# Altium integrated library Xilinx Spartan-3A DSP.IntLib: 32 symbols (part 6 of 10)
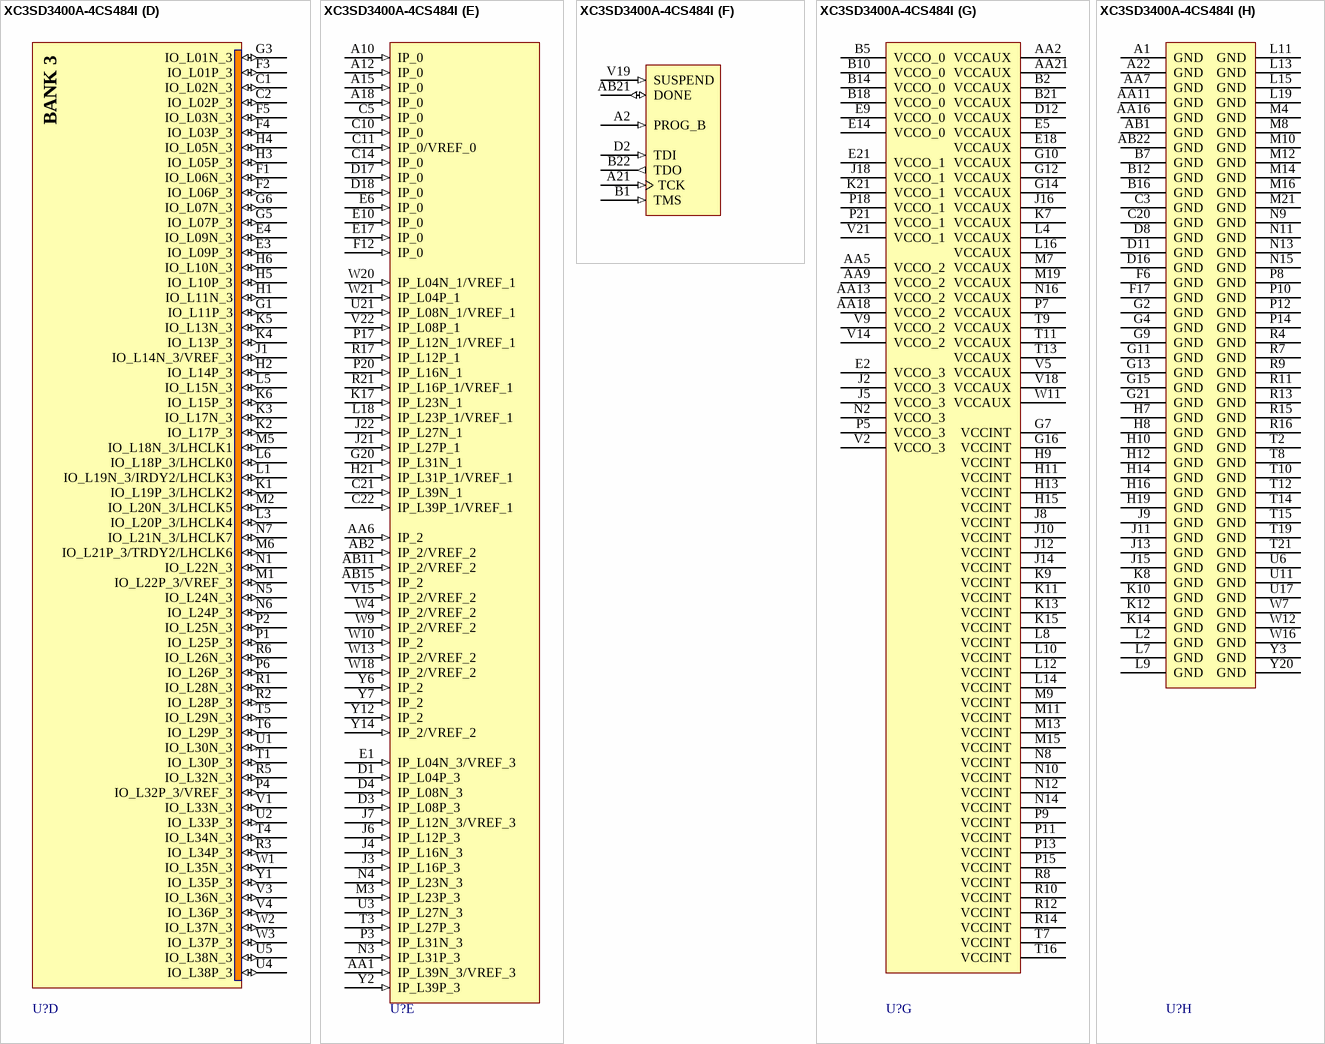
[diagram p52: symbol XC3SD3400A-4CS484I]

## XC3SD3400A-4CS484I
designator U?
Spartan-3A DSP FPGA, 309 User I/Os, 484-Pin FBGA, Standard Performance, Industrial Grade; Published: 20-Jul-2007; LatestRevisionDate: 24-Apr-2009; LatestRevisionNote: Updated to datasheet version 2.2 March 2009; DatasheetVersion: ver2.2, Mar-2009; PackageVersion: ver1.0, Apr-2007; PackageReference: CS484; Publisher: Altium Limited; PackageDescription: 484-Ball Laminate Chip Scale Ball Grid Array (CS484); Code_JEDEC: MO-205; ComponentLink1Description: Manufacturer Link; ComponentLink1URL: http://www.xilinx.com/products/spartan3a/3adsp.htm; ComponentLink2Description: Datasheet; ComponentLink2URL: http://www.xilinx.com/support/documentation/data_sheets/ds610.pdf
footprint CS484 (BGA, 484-Leads, Body 19x19mm, Pitch 0.8mm)
3D model XC3S3400A-FG484 (484-Ball Laminate Chip Scale Ball Grid Array (CS484))
signal-integrity model XC3S3400A_FG484 (Spartan-3A DSP)
part A pins: A3 IO_L30N_0 (io), A4 IO_L28N_0 (io), A5 IO_L25N_0 (io), A6 IO_L25P_0 (io), A7 IO_L24N_0/VREF_0 (io), A8 IO_L20P_0/GCLK10 (io), A9 IO_L18P_0/GCLK6 (io), A11 IO_L15N_0 (io), A13 IO_L11P_0 (io), A14 IO_L10P_0 (io), A16 IO_L06P_0/VREF_0 (io), A17 IO_L06N_0 (io), A19 IO_L07N_0 (io), A20 IO_0 (io), B3 IO_L30P_0 (io), B4 IO_L28P_0 (io), B6 IO_L24P_0 (io), B8 IO_L20N_0/GCLK11 (io), B9 IO_L18N_0/GCLK7 (io), B11 IO_L15P_0 (io), B13 IO_L11N_0 (io), B15 IO_L10N_0 (io), B17 IO_L03P_0 (io), B19 IO_L02N_0 (io), B20 IO_L07P_0 (io), C4 IO_L29N_0 (io), C6 IO_L21P_0 (io), C7 IO_L26P_0 (io), C8 IO_L22P_0 (io), C9 IO_L16P_0 (io), C12 IO_L14N_0 (io), C13 IO_L14P_0 (io), C15 IO_L12N_0/VREF_0 (io), C16 IO_L08N_0 (io), C17 IO_L03N_0 (io), C18 IO_L02P_0/VREF_0 (io), C19 IO_L01N_0 (io), D5 IO_L29P_0 (io), D6 IO_L21N_0 (io), D7 IO_L26N_0 (io), D9 IO_L22N_0 (io), D10 IO_L16N_0 (io), D13 IO_L09N_0 (io), D14 IO_L12P_0 (io), D15 IO_L08P_0 (io), D19 IO_L01P_0 (io), E7 IO_L31P_0/VREF_0 (io), E8 IO_L27N_0 (io), E11 IO_L19N_0/GCLK9 (io), E12 IO_L17P_0/GCLK4 (io), E13 IO_L09P_0 (io), E15 IO_L05P_0 (io), E16 IO_L04P_0 (io), F7 IO_L31N_0/PUDC_B (io), F8 IO_L27P_0 (io), F9 IO_L23N_0 (io), F10 IO_L19P_0/GCLK8 (io), F11 IO_L17N_0/GCLK5 (io), F13 IO_L13N_0 (io), F14 IO_L13P_0 (io), F15 IO_L05N_0 (io), F16 IO_L04N_0 (io), G8 IO_L23P_0 (io)
part B pins: AA22 IO_L02N_1/LDC0 (io), D20 IO_L36P_1/A20 (io), D21 IO_L37P_1/A22 (io), D22 IO_L37N_1/A23 (io), E19 IO_L36N_1/A21 (io), E20 IO_L35N_1 (io), E22 IO_L33N_1 (io), F18 IO_L38N_1/A25 (io), F19 IO_L38P_1/A24 (io), F20 IO_L30N_1/A19 (io), F21 IO_L35P_1 (io), F22 IO_L33P_1 (io), G17 IO_L34P_1 (io), G18 IO_L34N_1 (io), G19 IO_L30P_1/A18 (io), G22 IO_L28N_1 (io), H17 IO_L26P_1/A14 (io), H18 IO_L26N_1/A15 (io), H20 IO_L32N_1 (io), H22 IO_L28P_1 (io), J17 IO_L29N_1/A17 (io), J19 IO_L32P_1 (io), J20 IO_L25N_1/A13 (io), K16 IO_L29P_1/A16 (io), K18 IO_L24N_1 (io), K19 IO_L24P_1 (io), K20 IO_L25P_1/A12 (io), K22 IO_L22N_1/A11 (io), L17 IO_L21N_1/RHCLK7 (io), L20 IO_L20N_1/RHCLK5 (io), L21 IO_L20P_1/RHCLK4 (io), L22 IO_L22P_1/A10 (io), M17 IO_L18N_1/RHCLK1 (io), M18 IO_L21P_1/IRDY1/RHCLK6 (io), M20 IO_L19N_1/TRDY1/RHCLK3 (io), M22 IO_L17N_1/A9 (io), N17 IO_L13P_1/A2 (io), N18 IO_L18P_1/RHCLK0 (io), N19 IO_L15N_1/A7 (io), N20 IO_L15P_1/A6 (io), N21 IO_L19P_1/RHCLK2 (io), N22 IO_L17P_1/A8 (io), P16 IO_L13N_1/A3 (io), P19 IO_L10P_1 (io), P22 IO_L14N_1/A5 (io), R18 IO_L10N_1 (io), R19 IO_L07P_1 (io), R20 IO_L07N_1 (io), R22 IO_L14P_1/A4 (io), T17 IO_L05N_1 (io), T18 IO_L05P_1 (io), T20 IO_L09N_1 (io), T22 IO_L11N_1/VREF_1 (io), U18 IO_L01P_1/HDC (io), U19 IO_L01N_1/LDC2 (io), U20 IO_L09P_1 (io), U22 IO_L11P_1 (io), V20 IO_L03N_1/A1 (io), W19 IO_L03P_1/A0 (io), W22 IO_L06P_1 (io), Y21 IO_L02P_1/LDC1 (io), Y22 IO_L06N_1 (io)
part C pins: AA3 IO_L01P_2/M1 (io), AA4 IO_L04N_2 (io), AA8 IO_L08N_2 (io), AA10 IO_L12N_2/D6 (io), AA12 IO_L16P_2/GCLK14 (io), AA14 IO_L18N_2/GCLK3 (io), AA15 IO_L19P_2 (io), AA17 IO_L22P_2/AWAKE (io), AA19 IO_L27N_2 (io), AA20 IO_L30P_2 (io), AB3 IO_L01N_2/M0 (io), AB4 IO_L04P_2 (io), AB5 IO_L05P_2 (io), AB6 IO_L05N_2 (io), AB7 IO_L08P_2 (io), AB8 IO_L09P_2/VS1 (io), AB9 IO_L09N_2/VS0 (io), AB10 IO_L12P_2/D7 (io), AB12 IO_L16N_2/GCLK15 (io), AB13 IO_L18P_2/GCLK2 (io), AB14 IO_L19N_2 (io), AB16 IO_L22N_2/DOUT (io), AB17 IO_L23P_2 (io), AB18 IO_L23N_2 (io), AB19 IO_L27P_2 (io), AB20 IO_L30N_2 (io), U7 IO_L02N_2/CSO_B (io), U8 IO_L11N_2 (io), U9 IO_L10N_2 (io), U10 IO_L14N_2/D4 (io), U12 IO_L17P_2/GCLK0 (io), U13 IO_L20P_2 (io), U14 IO_L25P_2 (io), U15 IO_L25N_2 (io), U16 IO_L28P_2 (io), V6 IO_L02P_2/M2 (io), V7 IO_L11P_2 (io), V8 IO_L06N_2 (io), V10 IO_L10P_2 (io), V11 IO_L14P_2/D5 (io), V12 IO_L17N_2/GCLK1 (io), V13 IO_L20N_2/MOSI/CSI_B (io), V16 IO_L28N_2 (io), V17 IO_L31N_2/CCLK (io), W5 IO_L03P_2 (io), W6 IO_L07N_2/VS2 (io), W8 IO_L06P_2 (io), W14 IO_L21N_2 (io), W15 IO_L24P_2/INIT_B (io), W17 IO_L31P_2/D0/DIN/MISO (io), Y4 IO_L03N_2 (io), Y5 IO_L07P_2/RDWR_B (io), Y8 IO_L13P_2 (io), Y9 IO_L13N_2 (io), Y10 IO_L15N_2/GCLK13 (io), Y11 IO_L15P_2/GCLK12 (io), Y13 IO_L21P_2 (io), Y15 IO_L24N_2/D3 (io), Y16 IO_L29N_2 (io), Y17 IO_L29P_2 (io), Y18 IO_L26P_2/D2 (io), Y19 IO_L26N_2/D1 (io)
part D pins: C1 IO_L02N_3 (io), C2 IO_L02P_3 (io), E3 IO_L09P_3 (io), E4 IO_L09N_3 (io), F1 IO_L06N_3 (io), F2 IO_L06P_3 (io), F3 IO_L01P_3 (io), F4 IO_L03P_3 (io), F5 IO_L03N_3 (io), G1 IO_L11P_3 (io), G3 IO_L01N_3 (io), G5 IO_L07P_3 (io), G6 IO_L07N_3 (io), H1 IO_L11N_3 (io), H2 IO_L14P_3 (io), H3 IO_L05P_3 (io), H4 IO_L05N_3 (io), H5 IO_L10P_3 (io), H6 IO_L10N_3 (io), J1 IO_L14N_3/VREF_3 (io), K1 IO_L19P_3/LHCLK2 (io), K2 IO_L17P_3 (io), K3 IO_L17N_3 (io), K4 IO_L13P_3 (io), K5 IO_L13N_3 (io), K6 IO_L15P_3 (io), L1 IO_L19N_3/IRDY2/LHCLK3 (io), L3 IO_L20P_3/LHCLK4 (io), L5 IO_L15N_3 (io), L6 IO_L18P_3/LHCLK0 (io), M1 IO_L22P_3/VREF_3 (io), M2 IO_L20N_3/LHCLK5 (io), M5 IO_L18N_3/LHCLK1 (io), M6 IO_L21P_3/TRDY2/LHCLK6 (io), N1 IO_L22N_3 (io), N5 IO_L24N_3 (io), N6 IO_L24P_3 (io), N7 IO_L21N_3/LHCLK7 (io), P1 IO_L25P_3 (io), P2 IO_L25N_3 (io), P4 IO_L32P_3/VREF_3 (io), P6 IO_L26P_3 (io), R1 IO_L28N_3 (io), R2 IO_L28P_3 (io), R3 IO_L34P_3 (io), R5 IO_L32N_3 (io), R6 IO_L26N_3 (io), T1 IO_L30P_3 (io), T4 IO_L34N_3 (io), T5 IO_L29N_3 (io), T6 IO_L29P_3 (io), U1 IO_L30N_3 (io), U2 IO_L33P_3 (io), U4 IO_L38P_3 (io), U5 IO_L38N_3 (io), V1 IO_L33N_3 (io), V3 IO_L36N_3 (io), V4 IO_L36P_3 (io), W1 IO_L35N_3 (io), W2 IO_L37N_3 (io), W3 IO_L37P_3 (io), Y1 IO_L35P_3 (io)
part E pins: A10 IP_0 (in), A12 IP_0 (in), A15 IP_0 (in), A18 IP_0 (in), AA1 IP_L39N_3/VREF_3 (in), AA6 IP_2 (in), AB2 IP_2/VREF_2 (in), AB11 IP_2/VREF_2 (in), AB15 IP_2 (in), C5 IP_0 (in), C10 IP_0 (in), C11 IP_0/VREF_0 (in), C14 IP_0 (in), C21 IP_L39N_1 (in), C22 IP_L39P_1/VREF_1 (in), D1 IP_L04P_3 (in), D3 IP_L08P_3 (in), D4 IP_L08N_3 (in), D17 IP_0 (in), D18 IP_0 (in), E1 IP_L04N_3/VREF_3 (in), E6 IP_0 (in), E10 IP_0 (in), E17 IP_0 (in), F12 IP_0 (in), G20 IP_L31N_1 (in), H21 IP_L31P_1/VREF_1 (in), J3 IP_L16P_3 (in), J4 IP_L16N_3 (in), J6 IP_L12P_3 (in), J7 IP_L12N_3/VREF_3 (in), J21 IP_L27P_1 (in), J22 IP_L27N_1 (in), K17 IP_L23N_1 (in), L18 IP_L23P_1/VREF_1 (in), M3 IP_L23P_3 (in), N3 IP_L31P_3 (in), N4 IP_L23N_3 (in), P3 IP_L31N_3 (in), P17 IP_L12N_1/VREF_1 (in), P20 IP_L16N_1 (in), R17 IP_L12P_1 (in), R21 IP_L16P_1/VREF_1 (in), T3 IP_L27P_3 (in), U3 IP_L27N_3 (in), U21 IP_L08N_1/VREF_1 (in), V15 IP_2/VREF_2 (in), V22 IP_L08P_1 (in), W4 IP_2/VREF_2 (in), W9 IP_2/VREF_2 (in), W10 IP_2 (in), W13 IP_2/VREF_2 (in), W18 IP_2/VREF_2 (in), W20 IP_L04N_1/VREF_1 (in), W21 IP_L04P_1 (in), Y2 IP_L39P_3 (in), Y6 IP_2 (in), Y7 IP_2 (in), Y12 IP_2 (in), Y14 IP_2/VREF_2 (in)
part F pins: A2 PROG_B (in), A21 TCK (in), AB21 DONE (io), B1 TMS (in), B22 TDO (out), D2 TDI (in), V19 SUSPEND (in)
part G pins: AA2 VCCAUX (power), AA5 VCCO_2 (power), AA9 VCCO_2 (power), AA13 VCCO_2 (power), AA18 VCCO_2 (power), AA21 VCCAUX (power), B2 VCCAUX (power), B5 VCCO_0 (power), B10 VCCO_0 (power), B14 VCCO_0 (power), B18 VCCO_0 (power), B21 VCCAUX (power), D12 VCCAUX (power), E2 VCCO_3 (power), E5 VCCAUX (power), E9 VCCO_0 (power), E14 VCCO_0 (power), E18 VCCAUX (power), E21 VCCO_1 (power), G7 VCCINT (power), G10 VCCAUX (power), G12 VCCAUX (power), G14 VCCAUX (power), G16 VCCINT (power), H9 VCCINT (power), H11 VCCINT (power), H13 VCCINT (power), H15 VCCINT (power), J2 VCCO_3 (power), J5 VCCO_3 (power), J8 VCCINT (power), J10 VCCINT (power), J12 VCCINT (power), J14 VCCINT (power), J16 VCCAUX (power), J18 VCCO_1 (power), K7 VCCAUX (power), K9 VCCINT (power), K11 VCCINT (power), K13 VCCINT (power), K15 VCCINT (power), K21 VCCO_1 (power), L4 VCCAUX (power), L8 VCCINT (power), L10 VCCINT (power), L12 VCCINT (power), L14 VCCINT (power), L16 VCCAUX (power), M7 VCCAUX (power), M9 VCCINT (power), M11 VCCINT (power), M13 VCCINT (power), M15 VCCINT (power), M19 VCCAUX (power), N2 VCCO_3 (power), N8 VCCINT (power), N10 VCCINT (power), N12 VCCINT (power), N14 VCCINT (power), N16 VCCAUX (power), P5 VCCO_3 (power), P7 VCCAUX (power), P9 VCCINT (power), P11 VCCINT (power), P13 VCCINT (power), P15 VCCINT (power), P18 VCCO_1 (power), P21 VCCO_1 (power), R8 VCCINT (power), R10 VCCINT (power), R12 VCCINT (power), R14 VCCINT (power), T7 VCCINT (power), T9 VCCAUX (power), T11 VCCAUX (power), T13 VCCAUX (power), T16 VCCINT (power), V2 VCCO_3 (power), V5 VCCAUX (power), V9 VCCO_2 (power), V14 VCCO_2 (power), V18 VCCAUX (power), V21 VCCO_1 (power), W11 VCCAUX (power)
part H pins: A1 GND (power), A22 GND (power), AA7 GND (power), AA11 GND (power), AA16 GND (power), AB1 GND (power), AB22 GND (power), B7 GND (power), B12 GND (power), B16 GND (power), C3 GND (power), C20 GND (power), D8 GND (power), D11 GND (power), D16 GND (power), F6 GND (power), F17 GND (power), G2 GND (power), G4 GND (power), G9 GND (power), G11 GND (power), G13 GND (power), G15 GND (power), G21 GND (power), H7 GND (power), H8 GND (power), H10 GND (power), H12 GND (power), H14 GND (power), H16 GND (power), H19 GND (power), J9 GND (power), J11 GND (power), J13 GND (power), J15 GND (power), K8 GND (power), K10 GND (power), K12 GND (power), K14 GND (power), L2 GND (power), L7 GND (power), L9 GND (power), L11 GND (power), L13 GND (power), L15 GND (power), L19 GND (power), M4 GND (power), M8 GND (power), M10 GND (power), M12 GND (power), M14 GND (power), M16 GND (power), M21 GND (power), N9 GND (power), N11 GND (power), N13 GND (power), N15 GND (power), P8 GND (power), P10 GND (power), P12 GND (power), P14 GND (power), R4 GND (power), R7 GND (power), R9 GND (power), R11 GND (power), R13 GND (power), R15 GND (power), R16 GND (power), T2 GND (power), T8 GND (power), T10 GND (power), T12 GND (power), T14 GND (power), T15 GND (power), T19 GND (power), T21 GND (power), U6 GND (power), U11 GND (power), U17 GND (power), W7 GND (power), W12 GND (power), W16 GND (power), Y3 GND (power), Y20 GND (power)
part A text: BANK 0
part B text: BANK 1
part C text: BANK 2
part D text: BANK 3

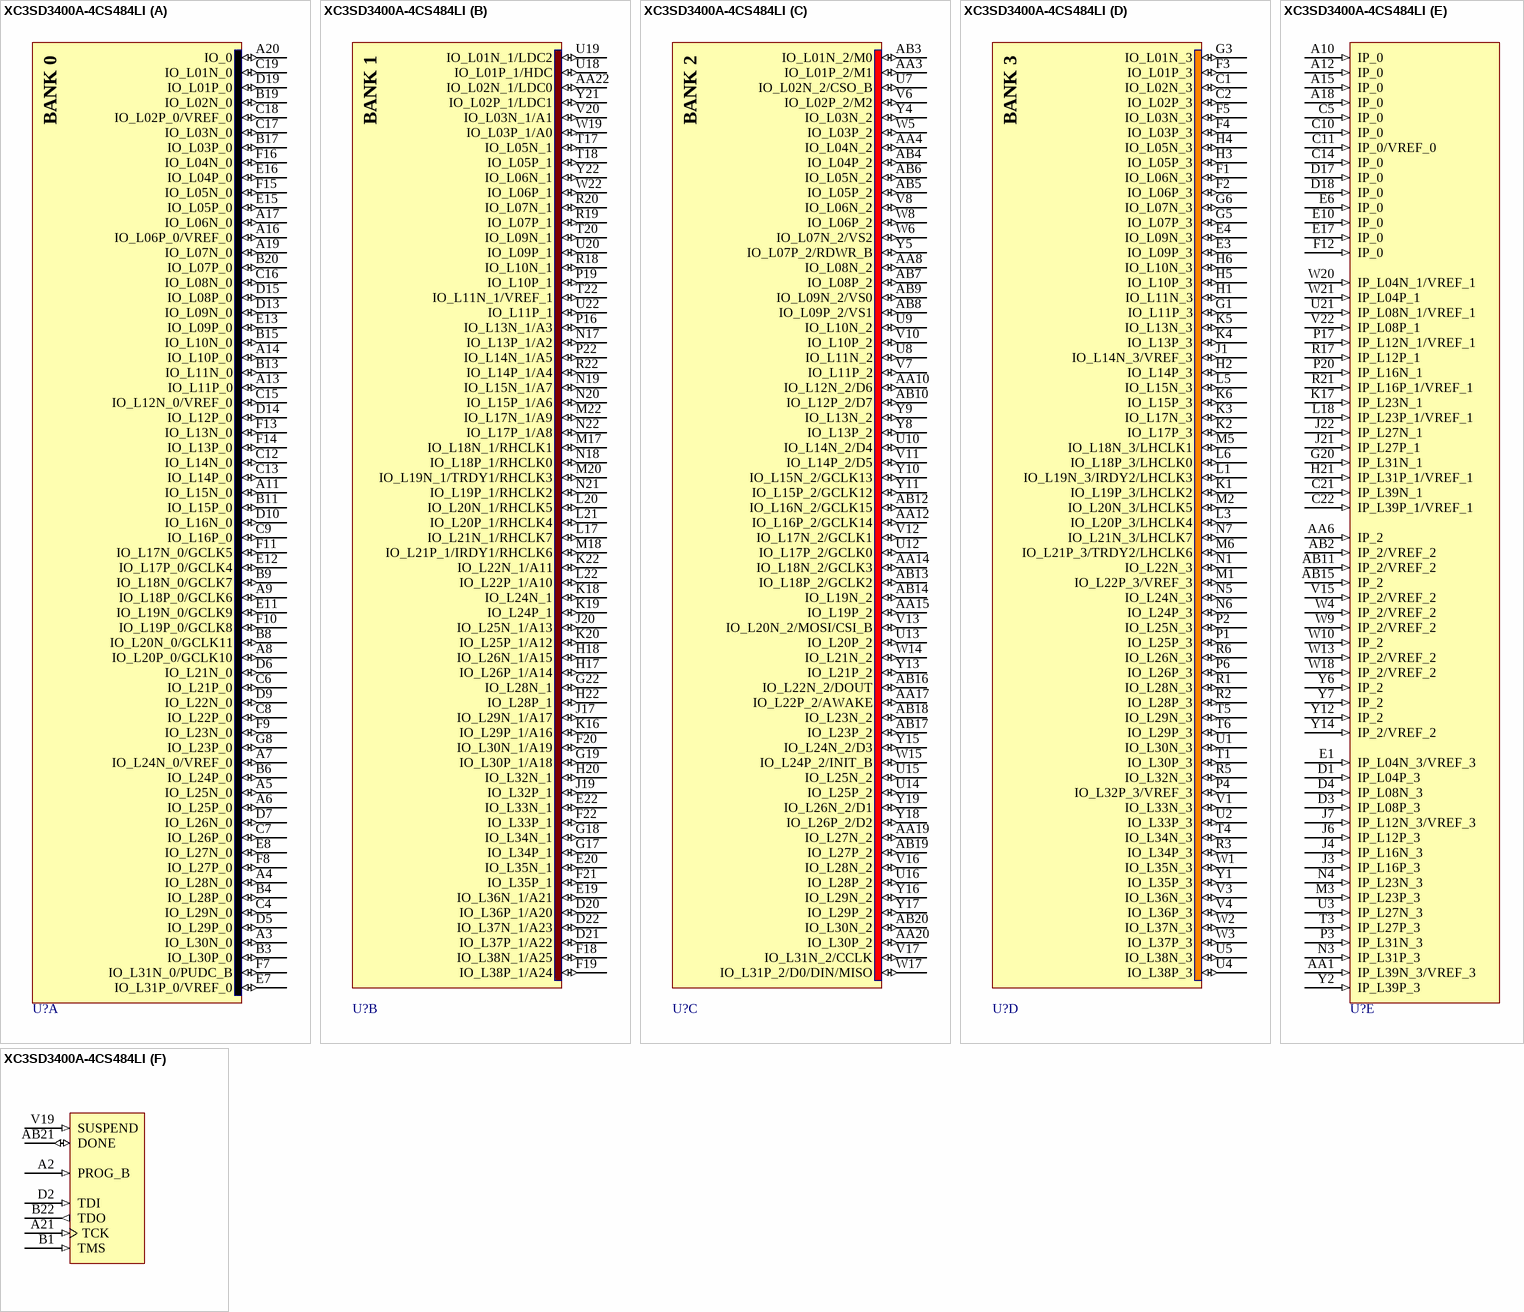
[diagram p27: symbol XC3SD3400A-4CS484LI]

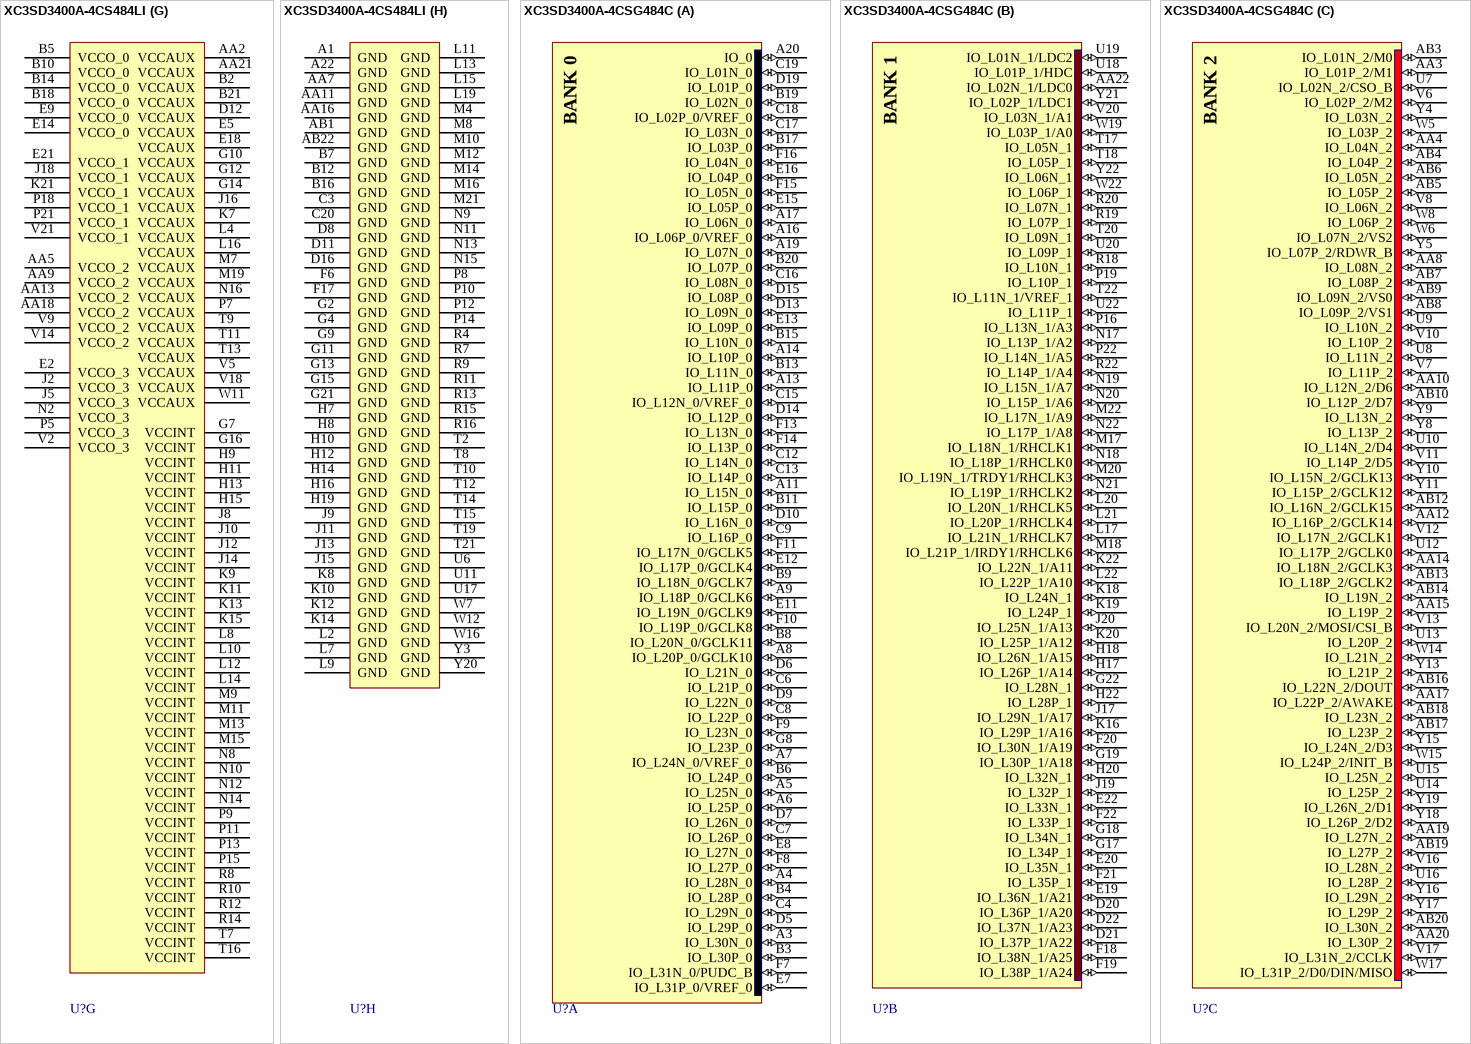
[diagram p28: symbols XC3SD3400A-4CS484LI to XC3SD3400A-4CSG484C]

## XC3SD3400A-4CS484LI
designator U?
Spartan-3A DSP FPGA, 309 User I/Os, 484-Pin FBGA, Standard Performance, Low-power Industrial Grade; Published: 24-Apr-2009; DatasheetVersion: ver2.2, Mar-2009; PackageVersion: ver1.0, Apr-2007; PackageReference: CS484; Publisher: Altium Limited; PackageDescription: 484-Ball Laminate Chip Scale Ball Grid Array (CS484); Code_JEDEC: MO-205; ComponentLink1Description: Manufacturer Link; ComponentLink1URL: http://www.xilinx.com/products/spartan3a/3adsp.htm; ComponentLink2Description: Datasheet; ComponentLink2URL: http://www.xilinx.com/support/documentation/data_sheets/ds610.pdf
footprint CS484 (BGA, 484-Leads, Body 19x19mm, Pitch 0.8mm)
3D model XC3S3400A-FG484 (484-Ball Laminate Chip Scale Ball Grid Array (CS484))
signal-integrity model XC3S3400A_FG484 (Spartan-3A DSP)
part A pins: A3 IO_L30N_0 (io), A4 IO_L28N_0 (io), A5 IO_L25N_0 (io), A6 IO_L25P_0 (io), A7 IO_L24N_0/VREF_0 (io), A8 IO_L20P_0/GCLK10 (io), A9 IO_L18P_0/GCLK6 (io), A11 IO_L15N_0 (io), A13 IO_L11P_0 (io), A14 IO_L10P_0 (io), A16 IO_L06P_0/VREF_0 (io), A17 IO_L06N_0 (io), A19 IO_L07N_0 (io), A20 IO_0 (io), B3 IO_L30P_0 (io), B4 IO_L28P_0 (io), B6 IO_L24P_0 (io), B8 IO_L20N_0/GCLK11 (io), B9 IO_L18N_0/GCLK7 (io), B11 IO_L15P_0 (io), B13 IO_L11N_0 (io), B15 IO_L10N_0 (io), B17 IO_L03P_0 (io), B19 IO_L02N_0 (io), B20 IO_L07P_0 (io), C4 IO_L29N_0 (io), C6 IO_L21P_0 (io), C7 IO_L26P_0 (io), C8 IO_L22P_0 (io), C9 IO_L16P_0 (io), C12 IO_L14N_0 (io), C13 IO_L14P_0 (io), C15 IO_L12N_0/VREF_0 (io), C16 IO_L08N_0 (io), C17 IO_L03N_0 (io), C18 IO_L02P_0/VREF_0 (io), C19 IO_L01N_0 (io), D5 IO_L29P_0 (io), D6 IO_L21N_0 (io), D7 IO_L26N_0 (io), D9 IO_L22N_0 (io), D10 IO_L16N_0 (io), D13 IO_L09N_0 (io), D14 IO_L12P_0 (io), D15 IO_L08P_0 (io), D19 IO_L01P_0 (io), E7 IO_L31P_0/VREF_0 (io), E8 IO_L27N_0 (io), E11 IO_L19N_0/GCLK9 (io), E12 IO_L17P_0/GCLK4 (io), E13 IO_L09P_0 (io), E15 IO_L05P_0 (io), E16 IO_L04P_0 (io), F7 IO_L31N_0/PUDC_B (io), F8 IO_L27P_0 (io), F9 IO_L23N_0 (io), F10 IO_L19P_0/GCLK8 (io), F11 IO_L17N_0/GCLK5 (io), F13 IO_L13N_0 (io), F14 IO_L13P_0 (io), F15 IO_L05N_0 (io), F16 IO_L04N_0 (io), G8 IO_L23P_0 (io)
part B pins: AA22 IO_L02N_1/LDC0 (io), D20 IO_L36P_1/A20 (io), D21 IO_L37P_1/A22 (io), D22 IO_L37N_1/A23 (io), E19 IO_L36N_1/A21 (io), E20 IO_L35N_1 (io), E22 IO_L33N_1 (io), F18 IO_L38N_1/A25 (io), F19 IO_L38P_1/A24 (io), F20 IO_L30N_1/A19 (io), F21 IO_L35P_1 (io), F22 IO_L33P_1 (io), G17 IO_L34P_1 (io), G18 IO_L34N_1 (io), G19 IO_L30P_1/A18 (io), G22 IO_L28N_1 (io), H17 IO_L26P_1/A14 (io), H18 IO_L26N_1/A15 (io), H20 IO_L32N_1 (io), H22 IO_L28P_1 (io), J17 IO_L29N_1/A17 (io), J19 IO_L32P_1 (io), J20 IO_L25N_1/A13 (io), K16 IO_L29P_1/A16 (io), K18 IO_L24N_1 (io), K19 IO_L24P_1 (io), K20 IO_L25P_1/A12 (io), K22 IO_L22N_1/A11 (io), L17 IO_L21N_1/RHCLK7 (io), L20 IO_L20N_1/RHCLK5 (io), L21 IO_L20P_1/RHCLK4 (io), L22 IO_L22P_1/A10 (io), M17 IO_L18N_1/RHCLK1 (io), M18 IO_L21P_1/IRDY1/RHCLK6 (io), M20 IO_L19N_1/TRDY1/RHCLK3 (io), M22 IO_L17N_1/A9 (io), N17 IO_L13P_1/A2 (io), N18 IO_L18P_1/RHCLK0 (io), N19 IO_L15N_1/A7 (io), N20 IO_L15P_1/A6 (io), N21 IO_L19P_1/RHCLK2 (io), N22 IO_L17P_1/A8 (io), P16 IO_L13N_1/A3 (io), P19 IO_L10P_1 (io), P22 IO_L14N_1/A5 (io), R18 IO_L10N_1 (io), R19 IO_L07P_1 (io), R20 IO_L07N_1 (io), R22 IO_L14P_1/A4 (io), T17 IO_L05N_1 (io), T18 IO_L05P_1 (io), T20 IO_L09N_1 (io), T22 IO_L11N_1/VREF_1 (io), U18 IO_L01P_1/HDC (io), U19 IO_L01N_1/LDC2 (io), U20 IO_L09P_1 (io), U22 IO_L11P_1 (io), V20 IO_L03N_1/A1 (io), W19 IO_L03P_1/A0 (io), W22 IO_L06P_1 (io), Y21 IO_L02P_1/LDC1 (io), Y22 IO_L06N_1 (io)
part C pins: AA3 IO_L01P_2/M1 (io), AA4 IO_L04N_2 (io), AA8 IO_L08N_2 (io), AA10 IO_L12N_2/D6 (io), AA12 IO_L16P_2/GCLK14 (io), AA14 IO_L18N_2/GCLK3 (io), AA15 IO_L19P_2 (io), AA17 IO_L22P_2/AWAKE (io), AA19 IO_L27N_2 (io), AA20 IO_L30P_2 (io), AB3 IO_L01N_2/M0 (io), AB4 IO_L04P_2 (io), AB5 IO_L05P_2 (io), AB6 IO_L05N_2 (io), AB7 IO_L08P_2 (io), AB8 IO_L09P_2/VS1 (io), AB9 IO_L09N_2/VS0 (io), AB10 IO_L12P_2/D7 (io), AB12 IO_L16N_2/GCLK15 (io), AB13 IO_L18P_2/GCLK2 (io), AB14 IO_L19N_2 (io), AB16 IO_L22N_2/DOUT (io), AB17 IO_L23P_2 (io), AB18 IO_L23N_2 (io), AB19 IO_L27P_2 (io), AB20 IO_L30N_2 (io), U7 IO_L02N_2/CSO_B (io), U8 IO_L11N_2 (io), U9 IO_L10N_2 (io), U10 IO_L14N_2/D4 (io), U12 IO_L17P_2/GCLK0 (io), U13 IO_L20P_2 (io), U14 IO_L25P_2 (io), U15 IO_L25N_2 (io), U16 IO_L28P_2 (io), V6 IO_L02P_2/M2 (io), V7 IO_L11P_2 (io), V8 IO_L06N_2 (io), V10 IO_L10P_2 (io), V11 IO_L14P_2/D5 (io), V12 IO_L17N_2/GCLK1 (io), V13 IO_L20N_2/MOSI/CSI_B (io), V16 IO_L28N_2 (io), V17 IO_L31N_2/CCLK (io), W5 IO_L03P_2 (io), W6 IO_L07N_2/VS2 (io), W8 IO_L06P_2 (io), W14 IO_L21N_2 (io), W15 IO_L24P_2/INIT_B (io), W17 IO_L31P_2/D0/DIN/MISO (io), Y4 IO_L03N_2 (io), Y5 IO_L07P_2/RDWR_B (io), Y8 IO_L13P_2 (io), Y9 IO_L13N_2 (io), Y10 IO_L15N_2/GCLK13 (io), Y11 IO_L15P_2/GCLK12 (io), Y13 IO_L21P_2 (io), Y15 IO_L24N_2/D3 (io), Y16 IO_L29N_2 (io), Y17 IO_L29P_2 (io), Y18 IO_L26P_2/D2 (io), Y19 IO_L26N_2/D1 (io)
part D pins: C1 IO_L02N_3 (io), C2 IO_L02P_3 (io), E3 IO_L09P_3 (io), E4 IO_L09N_3 (io), F1 IO_L06N_3 (io), F2 IO_L06P_3 (io), F3 IO_L01P_3 (io), F4 IO_L03P_3 (io), F5 IO_L03N_3 (io), G1 IO_L11P_3 (io), G3 IO_L01N_3 (io), G5 IO_L07P_3 (io), G6 IO_L07N_3 (io), H1 IO_L11N_3 (io), H2 IO_L14P_3 (io), H3 IO_L05P_3 (io), H4 IO_L05N_3 (io), H5 IO_L10P_3 (io), H6 IO_L10N_3 (io), J1 IO_L14N_3/VREF_3 (io), K1 IO_L19P_3/LHCLK2 (io), K2 IO_L17P_3 (io), K3 IO_L17N_3 (io), K4 IO_L13P_3 (io), K5 IO_L13N_3 (io), K6 IO_L15P_3 (io), L1 IO_L19N_3/IRDY2/LHCLK3 (io), L3 IO_L20P_3/LHCLK4 (io), L5 IO_L15N_3 (io), L6 IO_L18P_3/LHCLK0 (io), M1 IO_L22P_3/VREF_3 (io), M2 IO_L20N_3/LHCLK5 (io), M5 IO_L18N_3/LHCLK1 (io), M6 IO_L21P_3/TRDY2/LHCLK6 (io), N1 IO_L22N_3 (io), N5 IO_L24N_3 (io), N6 IO_L24P_3 (io), N7 IO_L21N_3/LHCLK7 (io), P1 IO_L25P_3 (io), P2 IO_L25N_3 (io), P4 IO_L32P_3/VREF_3 (io), P6 IO_L26P_3 (io), R1 IO_L28N_3 (io), R2 IO_L28P_3 (io), R3 IO_L34P_3 (io), R5 IO_L32N_3 (io), R6 IO_L26N_3 (io), T1 IO_L30P_3 (io), T4 IO_L34N_3 (io), T5 IO_L29N_3 (io), T6 IO_L29P_3 (io), U1 IO_L30N_3 (io), U2 IO_L33P_3 (io), U4 IO_L38P_3 (io), U5 IO_L38N_3 (io), V1 IO_L33N_3 (io), V3 IO_L36N_3 (io), V4 IO_L36P_3 (io), W1 IO_L35N_3 (io), W2 IO_L37N_3 (io), W3 IO_L37P_3 (io), Y1 IO_L35P_3 (io)
part E pins: A10 IP_0 (in), A12 IP_0 (in), A15 IP_0 (in), A18 IP_0 (in), AA1 IP_L39N_3/VREF_3 (in), AA6 IP_2 (in), AB2 IP_2/VREF_2 (in), AB11 IP_2/VREF_2 (in), AB15 IP_2 (in), C5 IP_0 (in), C10 IP_0 (in), C11 IP_0/VREF_0 (in), C14 IP_0 (in), C21 IP_L39N_1 (in), C22 IP_L39P_1/VREF_1 (in), D1 IP_L04P_3 (in), D3 IP_L08P_3 (in), D4 IP_L08N_3 (in), D17 IP_0 (in), D18 IP_0 (in), E1 IP_L04N_3/VREF_3 (in), E6 IP_0 (in), E10 IP_0 (in), E17 IP_0 (in), F12 IP_0 (in), G20 IP_L31N_1 (in), H21 IP_L31P_1/VREF_1 (in), J3 IP_L16P_3 (in), J4 IP_L16N_3 (in), J6 IP_L12P_3 (in), J7 IP_L12N_3/VREF_3 (in), J21 IP_L27P_1 (in), J22 IP_L27N_1 (in), K17 IP_L23N_1 (in), L18 IP_L23P_1/VREF_1 (in), M3 IP_L23P_3 (in), N3 IP_L31P_3 (in), N4 IP_L23N_3 (in), P3 IP_L31N_3 (in), P17 IP_L12N_1/VREF_1 (in), P20 IP_L16N_1 (in), R17 IP_L12P_1 (in), R21 IP_L16P_1/VREF_1 (in), T3 IP_L27P_3 (in), U3 IP_L27N_3 (in), U21 IP_L08N_1/VREF_1 (in), V15 IP_2/VREF_2 (in), V22 IP_L08P_1 (in), W4 IP_2/VREF_2 (in), W9 IP_2/VREF_2 (in), W10 IP_2 (in), W13 IP_2/VREF_2 (in), W18 IP_2/VREF_2 (in), W20 IP_L04N_1/VREF_1 (in), W21 IP_L04P_1 (in), Y2 IP_L39P_3 (in), Y6 IP_2 (in), Y7 IP_2 (in), Y12 IP_2 (in), Y14 IP_2/VREF_2 (in)
part F pins: A2 PROG_B (in), A21 TCK (in), AB21 DONE (io), B1 TMS (in), B22 TDO (out), D2 TDI (in), V19 SUSPEND (in)
part G pins: AA2 VCCAUX (power), AA5 VCCO_2 (power), AA9 VCCO_2 (power), AA13 VCCO_2 (power), AA18 VCCO_2 (power), AA21 VCCAUX (power), B2 VCCAUX (power), B5 VCCO_0 (power), B10 VCCO_0 (power), B14 VCCO_0 (power), B18 VCCO_0 (power), B21 VCCAUX (power), D12 VCCAUX (power), E2 VCCO_3 (power), E5 VCCAUX (power), E9 VCCO_0 (power), E14 VCCO_0 (power), E18 VCCAUX (power), E21 VCCO_1 (power), G7 VCCINT (power), G10 VCCAUX (power), G12 VCCAUX (power), G14 VCCAUX (power), G16 VCCINT (power), H9 VCCINT (power), H11 VCCINT (power), H13 VCCINT (power), H15 VCCINT (power), J2 VCCO_3 (power), J5 VCCO_3 (power), J8 VCCINT (power), J10 VCCINT (power), J12 VCCINT (power), J14 VCCINT (power), J16 VCCAUX (power), J18 VCCO_1 (power), K7 VCCAUX (power), K9 VCCINT (power), K11 VCCINT (power), K13 VCCINT (power), K15 VCCINT (power), K21 VCCO_1 (power), L4 VCCAUX (power), L8 VCCINT (power), L10 VCCINT (power), L12 VCCINT (power), L14 VCCINT (power), L16 VCCAUX (power), M7 VCCAUX (power), M9 VCCINT (power), M11 VCCINT (power), M13 VCCINT (power), M15 VCCINT (power), M19 VCCAUX (power), N2 VCCO_3 (power), N8 VCCINT (power), N10 VCCINT (power), N12 VCCINT (power), N14 VCCINT (power), N16 VCCAUX (power), P5 VCCO_3 (power), P7 VCCAUX (power), P9 VCCINT (power), P11 VCCINT (power), P13 VCCINT (power), P15 VCCINT (power), P18 VCCO_1 (power), P21 VCCO_1 (power), R8 VCCINT (power), R10 VCCINT (power), R12 VCCINT (power), R14 VCCINT (power), T7 VCCINT (power), T9 VCCAUX (power), T11 VCCAUX (power), T13 VCCAUX (power), T16 VCCINT (power), V2 VCCO_3 (power), V5 VCCAUX (power), V9 VCCO_2 (power), V14 VCCO_2 (power), V18 VCCAUX (power), V21 VCCO_1 (power), W11 VCCAUX (power)
part H pins: A1 GND (power), A22 GND (power), AA7 GND (power), AA11 GND (power), AA16 GND (power), AB1 GND (power), AB22 GND (power), B7 GND (power), B12 GND (power), B16 GND (power), C3 GND (power), C20 GND (power), D8 GND (power), D11 GND (power), D16 GND (power), F6 GND (power), F17 GND (power), G2 GND (power), G4 GND (power), G9 GND (power), G11 GND (power), G13 GND (power), G15 GND (power), G21 GND (power), H7 GND (power), H8 GND (power), H10 GND (power), H12 GND (power), H14 GND (power), H16 GND (power), H19 GND (power), J9 GND (power), J11 GND (power), J13 GND (power), J15 GND (power), K8 GND (power), K10 GND (power), K12 GND (power), K14 GND (power), L2 GND (power), L7 GND (power), L9 GND (power), L11 GND (power), L13 GND (power), L15 GND (power), L19 GND (power), M4 GND (power), M8 GND (power), M10 GND (power), M12 GND (power), M14 GND (power), M16 GND (power), M21 GND (power), N9 GND (power), N11 GND (power), N13 GND (power), N15 GND (power), P8 GND (power), P10 GND (power), P12 GND (power), P14 GND (power), R4 GND (power), R7 GND (power), R9 GND (power), R11 GND (power), R13 GND (power), R15 GND (power), R16 GND (power), T2 GND (power), T8 GND (power), T10 GND (power), T12 GND (power), T14 GND (power), T15 GND (power), T19 GND (power), T21 GND (power), U6 GND (power), U11 GND (power), U17 GND (power), W7 GND (power), W12 GND (power), W16 GND (power), Y3 GND (power), Y20 GND (power)
part A text: BANK 0
part B text: BANK 1
part C text: BANK 2
part D text: BANK 3

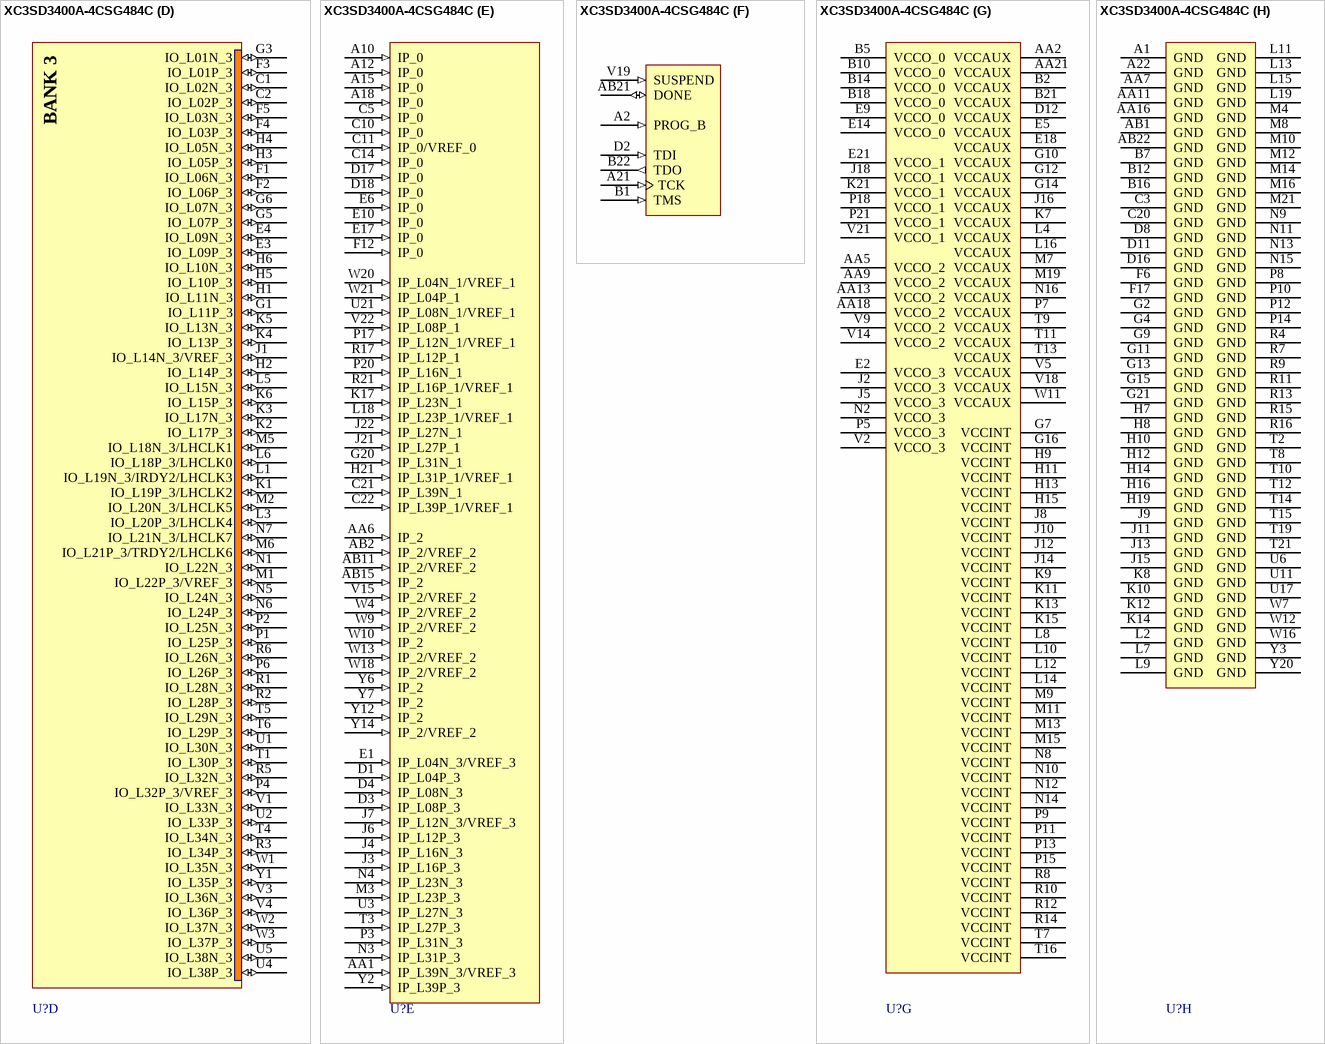
[diagram p29: symbol XC3SD3400A-4CSG484C]

## XC3SD3400A-4CSG484C
designator U?
Spartan-3A DSP FPGA, 309 User I/Os, 484-Pin FBGA, Standard Performance, Commercial Grade, Pb-Free; Published: 20-Jul-2007; LatestRevisionDate: 24-Apr-2009; LatestRevisionNote: Updated to datasheet version 2.2 March 2009; DatasheetVersion: ver2.2, Mar-2009; PackageVersion: ver1.0, Apr-2007; PackageReference: CSG484; Publisher: Altium Limited; PackageDescription: 484-Ball Laminate Chip Scale Ball Grid Array (CS484) - Pb-Free; Code_JEDEC: MO-205; ComponentLink1Description: Manufacturer Link; ComponentLink1URL: http://www.xilinx.com/products/spartan3a/3adsp.htm; ComponentLink2Description: Datasheet; ComponentLink2URL: http://www.xilinx.com/support/documentation/data_sheets/ds610.pdf
footprint CSG484 (BGA, 484-Leads, Body 19x19mm, Pitch 0.8mm)
3D model XC3S3400A-FG484 (484-Ball Laminate Chip Scale Ball Grid Array (CS484) - Pb-Free)
signal-integrity model XC3S3400A_FGG484 (Spartan-3A DSP)
part A pins: A3 IO_L30N_0 (io), A4 IO_L28N_0 (io), A5 IO_L25N_0 (io), A6 IO_L25P_0 (io), A7 IO_L24N_0/VREF_0 (io), A8 IO_L20P_0/GCLK10 (io), A9 IO_L18P_0/GCLK6 (io), A11 IO_L15N_0 (io), A13 IO_L11P_0 (io), A14 IO_L10P_0 (io), A16 IO_L06P_0/VREF_0 (io), A17 IO_L06N_0 (io), A19 IO_L07N_0 (io), A20 IO_0 (io), B3 IO_L30P_0 (io), B4 IO_L28P_0 (io), B6 IO_L24P_0 (io), B8 IO_L20N_0/GCLK11 (io), B9 IO_L18N_0/GCLK7 (io), B11 IO_L15P_0 (io), B13 IO_L11N_0 (io), B15 IO_L10N_0 (io), B17 IO_L03P_0 (io), B19 IO_L02N_0 (io), B20 IO_L07P_0 (io), C4 IO_L29N_0 (io), C6 IO_L21P_0 (io), C7 IO_L26P_0 (io), C8 IO_L22P_0 (io), C9 IO_L16P_0 (io), C12 IO_L14N_0 (io), C13 IO_L14P_0 (io), C15 IO_L12N_0/VREF_0 (io), C16 IO_L08N_0 (io), C17 IO_L03N_0 (io), C18 IO_L02P_0/VREF_0 (io), C19 IO_L01N_0 (io), D5 IO_L29P_0 (io), D6 IO_L21N_0 (io), D7 IO_L26N_0 (io), D9 IO_L22N_0 (io), D10 IO_L16N_0 (io), D13 IO_L09N_0 (io), D14 IO_L12P_0 (io), D15 IO_L08P_0 (io), D19 IO_L01P_0 (io), E7 IO_L31P_0/VREF_0 (io), E8 IO_L27N_0 (io), E11 IO_L19N_0/GCLK9 (io), E12 IO_L17P_0/GCLK4 (io), E13 IO_L09P_0 (io), E15 IO_L05P_0 (io), E16 IO_L04P_0 (io), F7 IO_L31N_0/PUDC_B (io), F8 IO_L27P_0 (io), F9 IO_L23N_0 (io), F10 IO_L19P_0/GCLK8 (io), F11 IO_L17N_0/GCLK5 (io), F13 IO_L13N_0 (io), F14 IO_L13P_0 (io), F15 IO_L05N_0 (io), F16 IO_L04N_0 (io), G8 IO_L23P_0 (io)
part B pins: AA22 IO_L02N_1/LDC0 (io), D20 IO_L36P_1/A20 (io), D21 IO_L37P_1/A22 (io), D22 IO_L37N_1/A23 (io), E19 IO_L36N_1/A21 (io), E20 IO_L35N_1 (io), E22 IO_L33N_1 (io), F18 IO_L38N_1/A25 (io), F19 IO_L38P_1/A24 (io), F20 IO_L30N_1/A19 (io), F21 IO_L35P_1 (io), F22 IO_L33P_1 (io), G17 IO_L34P_1 (io), G18 IO_L34N_1 (io), G19 IO_L30P_1/A18 (io), G22 IO_L28N_1 (io), H17 IO_L26P_1/A14 (io), H18 IO_L26N_1/A15 (io), H20 IO_L32N_1 (io), H22 IO_L28P_1 (io), J17 IO_L29N_1/A17 (io), J19 IO_L32P_1 (io), J20 IO_L25N_1/A13 (io), K16 IO_L29P_1/A16 (io), K18 IO_L24N_1 (io), K19 IO_L24P_1 (io), K20 IO_L25P_1/A12 (io), K22 IO_L22N_1/A11 (io), L17 IO_L21N_1/RHCLK7 (io), L20 IO_L20N_1/RHCLK5 (io), L21 IO_L20P_1/RHCLK4 (io), L22 IO_L22P_1/A10 (io), M17 IO_L18N_1/RHCLK1 (io), M18 IO_L21P_1/IRDY1/RHCLK6 (io), M20 IO_L19N_1/TRDY1/RHCLK3 (io), M22 IO_L17N_1/A9 (io), N17 IO_L13P_1/A2 (io), N18 IO_L18P_1/RHCLK0 (io), N19 IO_L15N_1/A7 (io), N20 IO_L15P_1/A6 (io), N21 IO_L19P_1/RHCLK2 (io), N22 IO_L17P_1/A8 (io), P16 IO_L13N_1/A3 (io), P19 IO_L10P_1 (io), P22 IO_L14N_1/A5 (io), R18 IO_L10N_1 (io), R19 IO_L07P_1 (io), R20 IO_L07N_1 (io), R22 IO_L14P_1/A4 (io), T17 IO_L05N_1 (io), T18 IO_L05P_1 (io), T20 IO_L09N_1 (io), T22 IO_L11N_1/VREF_1 (io), U18 IO_L01P_1/HDC (io), U19 IO_L01N_1/LDC2 (io), U20 IO_L09P_1 (io), U22 IO_L11P_1 (io), V20 IO_L03N_1/A1 (io), W19 IO_L03P_1/A0 (io), W22 IO_L06P_1 (io), Y21 IO_L02P_1/LDC1 (io), Y22 IO_L06N_1 (io)
part C pins: AA3 IO_L01P_2/M1 (io), AA4 IO_L04N_2 (io), AA8 IO_L08N_2 (io), AA10 IO_L12N_2/D6 (io), AA12 IO_L16P_2/GCLK14 (io), AA14 IO_L18N_2/GCLK3 (io), AA15 IO_L19P_2 (io), AA17 IO_L22P_2/AWAKE (io), AA19 IO_L27N_2 (io), AA20 IO_L30P_2 (io), AB3 IO_L01N_2/M0 (io), AB4 IO_L04P_2 (io), AB5 IO_L05P_2 (io), AB6 IO_L05N_2 (io), AB7 IO_L08P_2 (io), AB8 IO_L09P_2/VS1 (io), AB9 IO_L09N_2/VS0 (io), AB10 IO_L12P_2/D7 (io), AB12 IO_L16N_2/GCLK15 (io), AB13 IO_L18P_2/GCLK2 (io), AB14 IO_L19N_2 (io), AB16 IO_L22N_2/DOUT (io), AB17 IO_L23P_2 (io), AB18 IO_L23N_2 (io), AB19 IO_L27P_2 (io), AB20 IO_L30N_2 (io), U7 IO_L02N_2/CSO_B (io), U8 IO_L11N_2 (io), U9 IO_L10N_2 (io), U10 IO_L14N_2/D4 (io), U12 IO_L17P_2/GCLK0 (io), U13 IO_L20P_2 (io), U14 IO_L25P_2 (io), U15 IO_L25N_2 (io), U16 IO_L28P_2 (io), V6 IO_L02P_2/M2 (io), V7 IO_L11P_2 (io), V8 IO_L06N_2 (io), V10 IO_L10P_2 (io), V11 IO_L14P_2/D5 (io), V12 IO_L17N_2/GCLK1 (io), V13 IO_L20N_2/MOSI/CSI_B (io), V16 IO_L28N_2 (io), V17 IO_L31N_2/CCLK (io), W5 IO_L03P_2 (io), W6 IO_L07N_2/VS2 (io), W8 IO_L06P_2 (io), W14 IO_L21N_2 (io), W15 IO_L24P_2/INIT_B (io), W17 IO_L31P_2/D0/DIN/MISO (io), Y4 IO_L03N_2 (io), Y5 IO_L07P_2/RDWR_B (io), Y8 IO_L13P_2 (io), Y9 IO_L13N_2 (io), Y10 IO_L15N_2/GCLK13 (io), Y11 IO_L15P_2/GCLK12 (io), Y13 IO_L21P_2 (io), Y15 IO_L24N_2/D3 (io), Y16 IO_L29N_2 (io), Y17 IO_L29P_2 (io), Y18 IO_L26P_2/D2 (io), Y19 IO_L26N_2/D1 (io)
part D pins: C1 IO_L02N_3 (io), C2 IO_L02P_3 (io), E3 IO_L09P_3 (io), E4 IO_L09N_3 (io), F1 IO_L06N_3 (io), F2 IO_L06P_3 (io), F3 IO_L01P_3 (io), F4 IO_L03P_3 (io), F5 IO_L03N_3 (io), G1 IO_L11P_3 (io), G3 IO_L01N_3 (io), G5 IO_L07P_3 (io), G6 IO_L07N_3 (io), H1 IO_L11N_3 (io), H2 IO_L14P_3 (io), H3 IO_L05P_3 (io), H4 IO_L05N_3 (io), H5 IO_L10P_3 (io), H6 IO_L10N_3 (io), J1 IO_L14N_3/VREF_3 (io), K1 IO_L19P_3/LHCLK2 (io), K2 IO_L17P_3 (io), K3 IO_L17N_3 (io), K4 IO_L13P_3 (io), K5 IO_L13N_3 (io), K6 IO_L15P_3 (io), L1 IO_L19N_3/IRDY2/LHCLK3 (io), L3 IO_L20P_3/LHCLK4 (io), L5 IO_L15N_3 (io), L6 IO_L18P_3/LHCLK0 (io), M1 IO_L22P_3/VREF_3 (io), M2 IO_L20N_3/LHCLK5 (io), M5 IO_L18N_3/LHCLK1 (io), M6 IO_L21P_3/TRDY2/LHCLK6 (io), N1 IO_L22N_3 (io), N5 IO_L24N_3 (io), N6 IO_L24P_3 (io), N7 IO_L21N_3/LHCLK7 (io), P1 IO_L25P_3 (io), P2 IO_L25N_3 (io), P4 IO_L32P_3/VREF_3 (io), P6 IO_L26P_3 (io), R1 IO_L28N_3 (io), R2 IO_L28P_3 (io), R3 IO_L34P_3 (io), R5 IO_L32N_3 (io), R6 IO_L26N_3 (io), T1 IO_L30P_3 (io), T4 IO_L34N_3 (io), T5 IO_L29N_3 (io), T6 IO_L29P_3 (io), U1 IO_L30N_3 (io), U2 IO_L33P_3 (io), U4 IO_L38P_3 (io), U5 IO_L38N_3 (io), V1 IO_L33N_3 (io), V3 IO_L36N_3 (io), V4 IO_L36P_3 (io), W1 IO_L35N_3 (io), W2 IO_L37N_3 (io), W3 IO_L37P_3 (io), Y1 IO_L35P_3 (io)
part E pins: A10 IP_0 (in), A12 IP_0 (in), A15 IP_0 (in), A18 IP_0 (in), AA1 IP_L39N_3/VREF_3 (in), AA6 IP_2 (in), AB2 IP_2/VREF_2 (in), AB11 IP_2/VREF_2 (in), AB15 IP_2 (in), C5 IP_0 (in), C10 IP_0 (in), C11 IP_0/VREF_0 (in), C14 IP_0 (in), C21 IP_L39N_1 (in), C22 IP_L39P_1/VREF_1 (in), D1 IP_L04P_3 (in), D3 IP_L08P_3 (in), D4 IP_L08N_3 (in), D17 IP_0 (in), D18 IP_0 (in), E1 IP_L04N_3/VREF_3 (in), E6 IP_0 (in), E10 IP_0 (in), E17 IP_0 (in), F12 IP_0 (in), G20 IP_L31N_1 (in), H21 IP_L31P_1/VREF_1 (in), J3 IP_L16P_3 (in), J4 IP_L16N_3 (in), J6 IP_L12P_3 (in), J7 IP_L12N_3/VREF_3 (in), J21 IP_L27P_1 (in), J22 IP_L27N_1 (in), K17 IP_L23N_1 (in), L18 IP_L23P_1/VREF_1 (in), M3 IP_L23P_3 (in), N3 IP_L31P_3 (in), N4 IP_L23N_3 (in), P3 IP_L31N_3 (in), P17 IP_L12N_1/VREF_1 (in), P20 IP_L16N_1 (in), R17 IP_L12P_1 (in), R21 IP_L16P_1/VREF_1 (in), T3 IP_L27P_3 (in), U3 IP_L27N_3 (in), U21 IP_L08N_1/VREF_1 (in), V15 IP_2/VREF_2 (in), V22 IP_L08P_1 (in), W4 IP_2/VREF_2 (in), W9 IP_2/VREF_2 (in), W10 IP_2 (in), W13 IP_2/VREF_2 (in), W18 IP_2/VREF_2 (in), W20 IP_L04N_1/VREF_1 (in), W21 IP_L04P_1 (in), Y2 IP_L39P_3 (in), Y6 IP_2 (in), Y7 IP_2 (in), Y12 IP_2 (in), Y14 IP_2/VREF_2 (in)
part F pins: A2 PROG_B (in), A21 TCK (in), AB21 DONE (io), B1 TMS (in), B22 TDO (out), D2 TDI (in), V19 SUSPEND (in)
part G pins: AA2 VCCAUX (power), AA5 VCCO_2 (power), AA9 VCCO_2 (power), AA13 VCCO_2 (power), AA18 VCCO_2 (power), AA21 VCCAUX (power), B2 VCCAUX (power), B5 VCCO_0 (power), B10 VCCO_0 (power), B14 VCCO_0 (power), B18 VCCO_0 (power), B21 VCCAUX (power), D12 VCCAUX (power), E2 VCCO_3 (power), E5 VCCAUX (power), E9 VCCO_0 (power), E14 VCCO_0 (power), E18 VCCAUX (power), E21 VCCO_1 (power), G7 VCCINT (power), G10 VCCAUX (power), G12 VCCAUX (power), G14 VCCAUX (power), G16 VCCINT (power), H9 VCCINT (power), H11 VCCINT (power), H13 VCCINT (power), H15 VCCINT (power), J2 VCCO_3 (power), J5 VCCO_3 (power), J8 VCCINT (power), J10 VCCINT (power), J12 VCCINT (power), J14 VCCINT (power), J16 VCCAUX (power), J18 VCCO_1 (power), K7 VCCAUX (power), K9 VCCINT (power), K11 VCCINT (power), K13 VCCINT (power), K15 VCCINT (power), K21 VCCO_1 (power), L4 VCCAUX (power), L8 VCCINT (power), L10 VCCINT (power), L12 VCCINT (power), L14 VCCINT (power), L16 VCCAUX (power), M7 VCCAUX (power), M9 VCCINT (power), M11 VCCINT (power), M13 VCCINT (power), M15 VCCINT (power), M19 VCCAUX (power), N2 VCCO_3 (power), N8 VCCINT (power), N10 VCCINT (power), N12 VCCINT (power), N14 VCCINT (power), N16 VCCAUX (power), P5 VCCO_3 (power), P7 VCCAUX (power), P9 VCCINT (power), P11 VCCINT (power), P13 VCCINT (power), P15 VCCINT (power), P18 VCCO_1 (power), P21 VCCO_1 (power), R8 VCCINT (power), R10 VCCINT (power), R12 VCCINT (power), R14 VCCINT (power), T7 VCCINT (power), T9 VCCAUX (power), T11 VCCAUX (power), T13 VCCAUX (power), T16 VCCINT (power), V2 VCCO_3 (power), V5 VCCAUX (power), V9 VCCO_2 (power), V14 VCCO_2 (power), V18 VCCAUX (power), V21 VCCO_1 (power), W11 VCCAUX (power)
part H pins: A1 GND (power), A22 GND (power), AA7 GND (power), AA11 GND (power), AA16 GND (power), AB1 GND (power), AB22 GND (power), B7 GND (power), B12 GND (power), B16 GND (power), C3 GND (power), C20 GND (power), D8 GND (power), D11 GND (power), D16 GND (power), F6 GND (power), F17 GND (power), G2 GND (power), G4 GND (power), G9 GND (power), G11 GND (power), G13 GND (power), G15 GND (power), G21 GND (power), H7 GND (power), H8 GND (power), H10 GND (power), H12 GND (power), H14 GND (power), H16 GND (power), H19 GND (power), J9 GND (power), J11 GND (power), J13 GND (power), J15 GND (power), K8 GND (power), K10 GND (power), K12 GND (power), K14 GND (power), L2 GND (power), L7 GND (power), L9 GND (power), L11 GND (power), L13 GND (power), L15 GND (power), L19 GND (power), M4 GND (power), M8 GND (power), M10 GND (power), M12 GND (power), M14 GND (power), M16 GND (power), M21 GND (power), N9 GND (power), N11 GND (power), N13 GND (power), N15 GND (power), P8 GND (power), P10 GND (power), P12 GND (power), P14 GND (power), R4 GND (power), R7 GND (power), R9 GND (power), R11 GND (power), R13 GND (power), R15 GND (power), R16 GND (power), T2 GND (power), T8 GND (power), T10 GND (power), T12 GND (power), T14 GND (power), T15 GND (power), T19 GND (power), T21 GND (power), U6 GND (power), U11 GND (power), U17 GND (power), W7 GND (power), W12 GND (power), W16 GND (power), Y3 GND (power), Y20 GND (power)
part A text: BANK 0
part B text: BANK 1
part C text: BANK 2
part D text: BANK 3

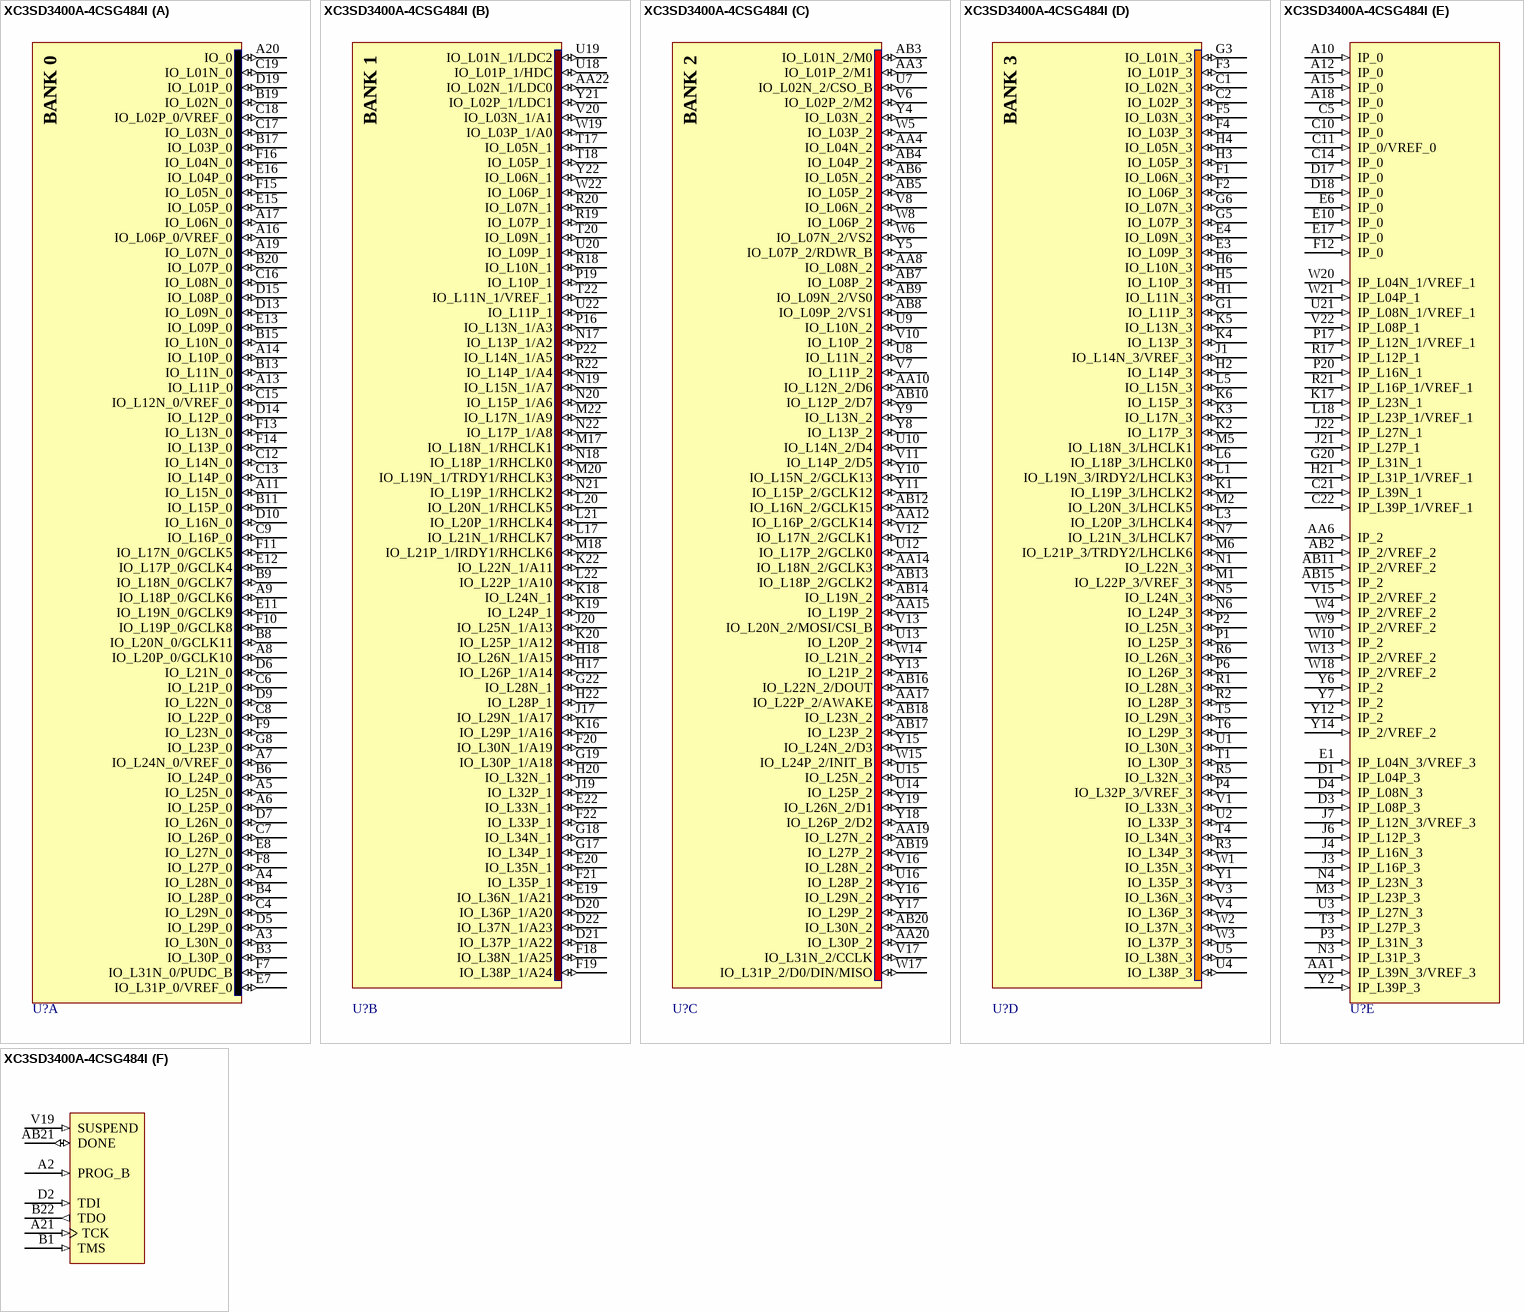
[diagram p30: symbol XC3SD3400A-4CSG484I]

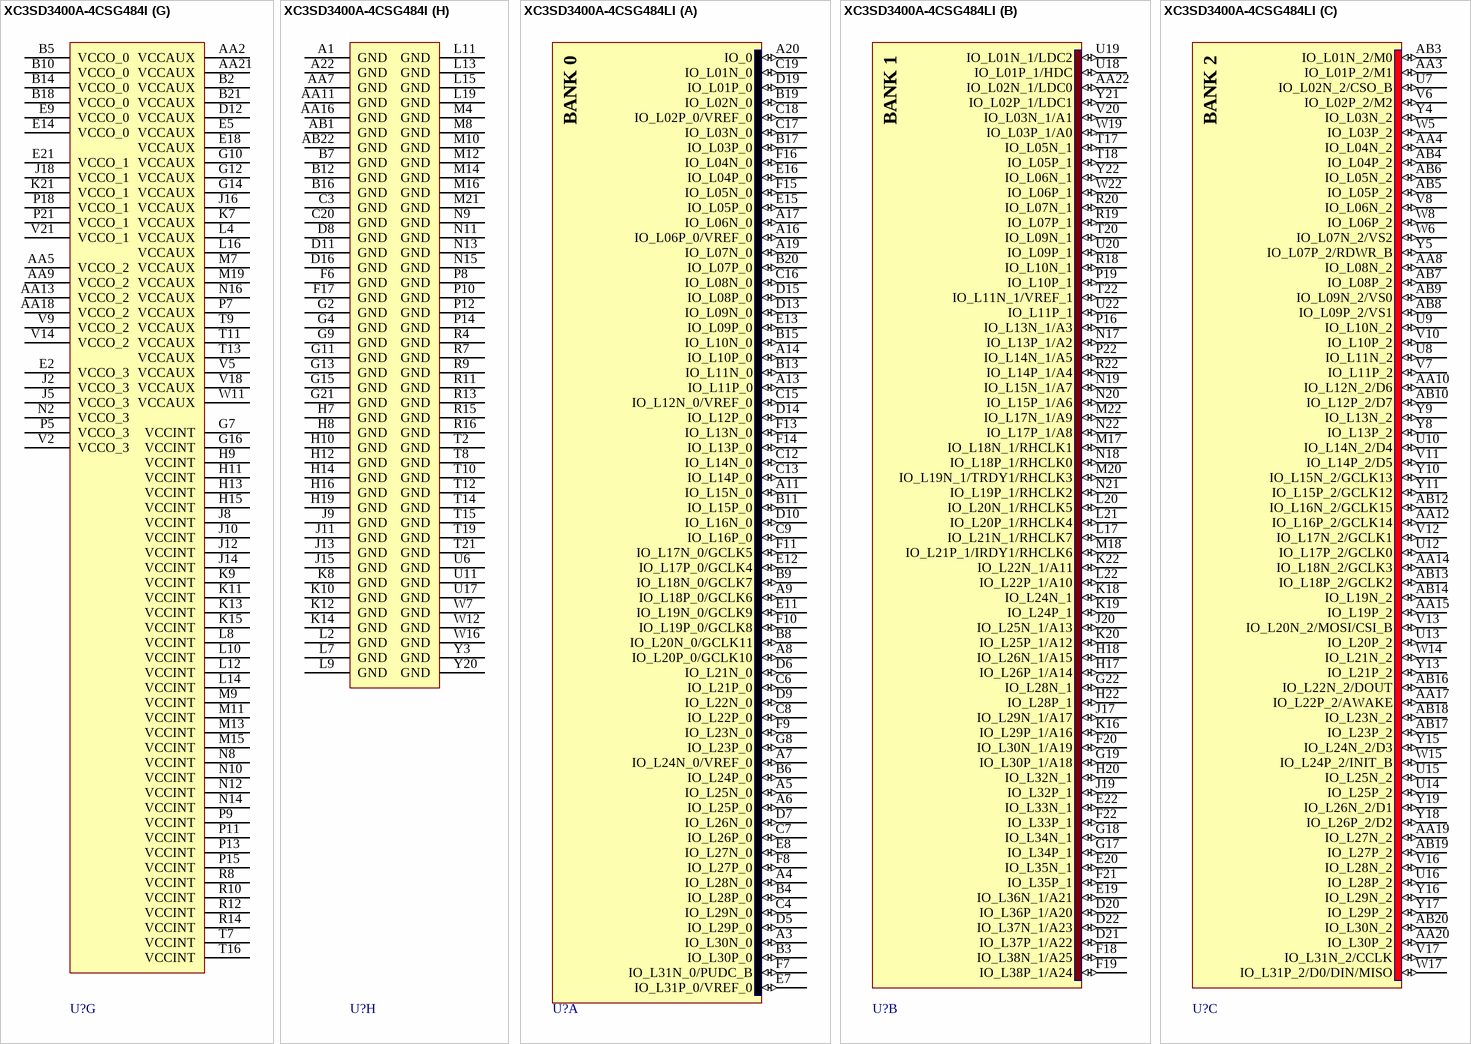
[diagram p31: symbols XC3SD3400A-4CSG484I to XC3SD3400A-4CSG484LI]

## XC3SD3400A-4CSG484I
designator U?
Spartan-3A DSP FPGA, 309 User I/Os, 484-Pin FBGA, Standard Performance, Industrial Grade, Pb-Free; Published: 20-Jul-2007; LatestRevisionDate: 24-Apr-2009; LatestRevisionNote: Updated to datasheet version 2.2 March 2009; DatasheetVersion: ver2.2, Mar-2009; PackageVersion: ver1.0, Apr-2007; PackageReference: CSG484; Publisher: Altium Limited; PackageDescription: 484-Ball Laminate Chip Scale Ball Grid Array (CS484) - Pb-Free; Code_JEDEC: MO-205; ComponentLink1Description: Manufacturer Link; ComponentLink1URL: http://www.xilinx.com/products/spartan3a/3adsp.htm; ComponentLink2Description: Datasheet; ComponentLink2URL: http://www.xilinx.com/support/documentation/data_sheets/ds610.pdf
footprint CSG484 (BGA, 484-Leads, Body 19x19mm, Pitch 0.8mm)
3D model XC3S3400A-FG484 (484-Ball Laminate Chip Scale Ball Grid Array (CS484) - Pb-Free)
signal-integrity model XC3S3400A_FGG484 (Spartan-3A DSP)
part A pins: A3 IO_L30N_0 (io), A4 IO_L28N_0 (io), A5 IO_L25N_0 (io), A6 IO_L25P_0 (io), A7 IO_L24N_0/VREF_0 (io), A8 IO_L20P_0/GCLK10 (io), A9 IO_L18P_0/GCLK6 (io), A11 IO_L15N_0 (io), A13 IO_L11P_0 (io), A14 IO_L10P_0 (io), A16 IO_L06P_0/VREF_0 (io), A17 IO_L06N_0 (io), A19 IO_L07N_0 (io), A20 IO_0 (io), B3 IO_L30P_0 (io), B4 IO_L28P_0 (io), B6 IO_L24P_0 (io), B8 IO_L20N_0/GCLK11 (io), B9 IO_L18N_0/GCLK7 (io), B11 IO_L15P_0 (io), B13 IO_L11N_0 (io), B15 IO_L10N_0 (io), B17 IO_L03P_0 (io), B19 IO_L02N_0 (io), B20 IO_L07P_0 (io), C4 IO_L29N_0 (io), C6 IO_L21P_0 (io), C7 IO_L26P_0 (io), C8 IO_L22P_0 (io), C9 IO_L16P_0 (io), C12 IO_L14N_0 (io), C13 IO_L14P_0 (io), C15 IO_L12N_0/VREF_0 (io), C16 IO_L08N_0 (io), C17 IO_L03N_0 (io), C18 IO_L02P_0/VREF_0 (io), C19 IO_L01N_0 (io), D5 IO_L29P_0 (io), D6 IO_L21N_0 (io), D7 IO_L26N_0 (io), D9 IO_L22N_0 (io), D10 IO_L16N_0 (io), D13 IO_L09N_0 (io), D14 IO_L12P_0 (io), D15 IO_L08P_0 (io), D19 IO_L01P_0 (io), E7 IO_L31P_0/VREF_0 (io), E8 IO_L27N_0 (io), E11 IO_L19N_0/GCLK9 (io), E12 IO_L17P_0/GCLK4 (io), E13 IO_L09P_0 (io), E15 IO_L05P_0 (io), E16 IO_L04P_0 (io), F7 IO_L31N_0/PUDC_B (io), F8 IO_L27P_0 (io), F9 IO_L23N_0 (io), F10 IO_L19P_0/GCLK8 (io), F11 IO_L17N_0/GCLK5 (io), F13 IO_L13N_0 (io), F14 IO_L13P_0 (io), F15 IO_L05N_0 (io), F16 IO_L04N_0 (io), G8 IO_L23P_0 (io)
part B pins: AA22 IO_L02N_1/LDC0 (io), D20 IO_L36P_1/A20 (io), D21 IO_L37P_1/A22 (io), D22 IO_L37N_1/A23 (io), E19 IO_L36N_1/A21 (io), E20 IO_L35N_1 (io), E22 IO_L33N_1 (io), F18 IO_L38N_1/A25 (io), F19 IO_L38P_1/A24 (io), F20 IO_L30N_1/A19 (io), F21 IO_L35P_1 (io), F22 IO_L33P_1 (io), G17 IO_L34P_1 (io), G18 IO_L34N_1 (io), G19 IO_L30P_1/A18 (io), G22 IO_L28N_1 (io), H17 IO_L26P_1/A14 (io), H18 IO_L26N_1/A15 (io), H20 IO_L32N_1 (io), H22 IO_L28P_1 (io), J17 IO_L29N_1/A17 (io), J19 IO_L32P_1 (io), J20 IO_L25N_1/A13 (io), K16 IO_L29P_1/A16 (io), K18 IO_L24N_1 (io), K19 IO_L24P_1 (io), K20 IO_L25P_1/A12 (io), K22 IO_L22N_1/A11 (io), L17 IO_L21N_1/RHCLK7 (io), L20 IO_L20N_1/RHCLK5 (io), L21 IO_L20P_1/RHCLK4 (io), L22 IO_L22P_1/A10 (io), M17 IO_L18N_1/RHCLK1 (io), M18 IO_L21P_1/IRDY1/RHCLK6 (io), M20 IO_L19N_1/TRDY1/RHCLK3 (io), M22 IO_L17N_1/A9 (io), N17 IO_L13P_1/A2 (io), N18 IO_L18P_1/RHCLK0 (io), N19 IO_L15N_1/A7 (io), N20 IO_L15P_1/A6 (io), N21 IO_L19P_1/RHCLK2 (io), N22 IO_L17P_1/A8 (io), P16 IO_L13N_1/A3 (io), P19 IO_L10P_1 (io), P22 IO_L14N_1/A5 (io), R18 IO_L10N_1 (io), R19 IO_L07P_1 (io), R20 IO_L07N_1 (io), R22 IO_L14P_1/A4 (io), T17 IO_L05N_1 (io), T18 IO_L05P_1 (io), T20 IO_L09N_1 (io), T22 IO_L11N_1/VREF_1 (io), U18 IO_L01P_1/HDC (io), U19 IO_L01N_1/LDC2 (io), U20 IO_L09P_1 (io), U22 IO_L11P_1 (io), V20 IO_L03N_1/A1 (io), W19 IO_L03P_1/A0 (io), W22 IO_L06P_1 (io), Y21 IO_L02P_1/LDC1 (io), Y22 IO_L06N_1 (io)
part C pins: AA3 IO_L01P_2/M1 (io), AA4 IO_L04N_2 (io), AA8 IO_L08N_2 (io), AA10 IO_L12N_2/D6 (io), AA12 IO_L16P_2/GCLK14 (io), AA14 IO_L18N_2/GCLK3 (io), AA15 IO_L19P_2 (io), AA17 IO_L22P_2/AWAKE (io), AA19 IO_L27N_2 (io), AA20 IO_L30P_2 (io), AB3 IO_L01N_2/M0 (io), AB4 IO_L04P_2 (io), AB5 IO_L05P_2 (io), AB6 IO_L05N_2 (io), AB7 IO_L08P_2 (io), AB8 IO_L09P_2/VS1 (io), AB9 IO_L09N_2/VS0 (io), AB10 IO_L12P_2/D7 (io), AB12 IO_L16N_2/GCLK15 (io), AB13 IO_L18P_2/GCLK2 (io), AB14 IO_L19N_2 (io), AB16 IO_L22N_2/DOUT (io), AB17 IO_L23P_2 (io), AB18 IO_L23N_2 (io), AB19 IO_L27P_2 (io), AB20 IO_L30N_2 (io), U7 IO_L02N_2/CSO_B (io), U8 IO_L11N_2 (io), U9 IO_L10N_2 (io), U10 IO_L14N_2/D4 (io), U12 IO_L17P_2/GCLK0 (io), U13 IO_L20P_2 (io), U14 IO_L25P_2 (io), U15 IO_L25N_2 (io), U16 IO_L28P_2 (io), V6 IO_L02P_2/M2 (io), V7 IO_L11P_2 (io), V8 IO_L06N_2 (io), V10 IO_L10P_2 (io), V11 IO_L14P_2/D5 (io), V12 IO_L17N_2/GCLK1 (io), V13 IO_L20N_2/MOSI/CSI_B (io), V16 IO_L28N_2 (io), V17 IO_L31N_2/CCLK (io), W5 IO_L03P_2 (io), W6 IO_L07N_2/VS2 (io), W8 IO_L06P_2 (io), W14 IO_L21N_2 (io), W15 IO_L24P_2/INIT_B (io), W17 IO_L31P_2/D0/DIN/MISO (io), Y4 IO_L03N_2 (io), Y5 IO_L07P_2/RDWR_B (io), Y8 IO_L13P_2 (io), Y9 IO_L13N_2 (io), Y10 IO_L15N_2/GCLK13 (io), Y11 IO_L15P_2/GCLK12 (io), Y13 IO_L21P_2 (io), Y15 IO_L24N_2/D3 (io), Y16 IO_L29N_2 (io), Y17 IO_L29P_2 (io), Y18 IO_L26P_2/D2 (io), Y19 IO_L26N_2/D1 (io)
part D pins: C1 IO_L02N_3 (io), C2 IO_L02P_3 (io), E3 IO_L09P_3 (io), E4 IO_L09N_3 (io), F1 IO_L06N_3 (io), F2 IO_L06P_3 (io), F3 IO_L01P_3 (io), F4 IO_L03P_3 (io), F5 IO_L03N_3 (io), G1 IO_L11P_3 (io), G3 IO_L01N_3 (io), G5 IO_L07P_3 (io), G6 IO_L07N_3 (io), H1 IO_L11N_3 (io), H2 IO_L14P_3 (io), H3 IO_L05P_3 (io), H4 IO_L05N_3 (io), H5 IO_L10P_3 (io), H6 IO_L10N_3 (io), J1 IO_L14N_3/VREF_3 (io), K1 IO_L19P_3/LHCLK2 (io), K2 IO_L17P_3 (io), K3 IO_L17N_3 (io), K4 IO_L13P_3 (io), K5 IO_L13N_3 (io), K6 IO_L15P_3 (io), L1 IO_L19N_3/IRDY2/LHCLK3 (io), L3 IO_L20P_3/LHCLK4 (io), L5 IO_L15N_3 (io), L6 IO_L18P_3/LHCLK0 (io), M1 IO_L22P_3/VREF_3 (io), M2 IO_L20N_3/LHCLK5 (io), M5 IO_L18N_3/LHCLK1 (io), M6 IO_L21P_3/TRDY2/LHCLK6 (io), N1 IO_L22N_3 (io), N5 IO_L24N_3 (io), N6 IO_L24P_3 (io), N7 IO_L21N_3/LHCLK7 (io), P1 IO_L25P_3 (io), P2 IO_L25N_3 (io), P4 IO_L32P_3/VREF_3 (io), P6 IO_L26P_3 (io), R1 IO_L28N_3 (io), R2 IO_L28P_3 (io), R3 IO_L34P_3 (io), R5 IO_L32N_3 (io), R6 IO_L26N_3 (io), T1 IO_L30P_3 (io), T4 IO_L34N_3 (io), T5 IO_L29N_3 (io), T6 IO_L29P_3 (io), U1 IO_L30N_3 (io), U2 IO_L33P_3 (io), U4 IO_L38P_3 (io), U5 IO_L38N_3 (io), V1 IO_L33N_3 (io), V3 IO_L36N_3 (io), V4 IO_L36P_3 (io), W1 IO_L35N_3 (io), W2 IO_L37N_3 (io), W3 IO_L37P_3 (io), Y1 IO_L35P_3 (io)
part E pins: A10 IP_0 (in), A12 IP_0 (in), A15 IP_0 (in), A18 IP_0 (in), AA1 IP_L39N_3/VREF_3 (in), AA6 IP_2 (in), AB2 IP_2/VREF_2 (in), AB11 IP_2/VREF_2 (in), AB15 IP_2 (in), C5 IP_0 (in), C10 IP_0 (in), C11 IP_0/VREF_0 (in), C14 IP_0 (in), C21 IP_L39N_1 (in), C22 IP_L39P_1/VREF_1 (in), D1 IP_L04P_3 (in), D3 IP_L08P_3 (in), D4 IP_L08N_3 (in), D17 IP_0 (in), D18 IP_0 (in), E1 IP_L04N_3/VREF_3 (in), E6 IP_0 (in), E10 IP_0 (in), E17 IP_0 (in), F12 IP_0 (in), G20 IP_L31N_1 (in), H21 IP_L31P_1/VREF_1 (in), J3 IP_L16P_3 (in), J4 IP_L16N_3 (in), J6 IP_L12P_3 (in), J7 IP_L12N_3/VREF_3 (in), J21 IP_L27P_1 (in), J22 IP_L27N_1 (in), K17 IP_L23N_1 (in), L18 IP_L23P_1/VREF_1 (in), M3 IP_L23P_3 (in), N3 IP_L31P_3 (in), N4 IP_L23N_3 (in), P3 IP_L31N_3 (in), P17 IP_L12N_1/VREF_1 (in), P20 IP_L16N_1 (in), R17 IP_L12P_1 (in), R21 IP_L16P_1/VREF_1 (in), T3 IP_L27P_3 (in), U3 IP_L27N_3 (in), U21 IP_L08N_1/VREF_1 (in), V15 IP_2/VREF_2 (in), V22 IP_L08P_1 (in), W4 IP_2/VREF_2 (in), W9 IP_2/VREF_2 (in), W10 IP_2 (in), W13 IP_2/VREF_2 (in), W18 IP_2/VREF_2 (in), W20 IP_L04N_1/VREF_1 (in), W21 IP_L04P_1 (in), Y2 IP_L39P_3 (in), Y6 IP_2 (in), Y7 IP_2 (in), Y12 IP_2 (in), Y14 IP_2/VREF_2 (in)
part F pins: A2 PROG_B (in), A21 TCK (in), AB21 DONE (io), B1 TMS (in), B22 TDO (out), D2 TDI (in), V19 SUSPEND (in)
part G pins: AA2 VCCAUX (power), AA5 VCCO_2 (power), AA9 VCCO_2 (power), AA13 VCCO_2 (power), AA18 VCCO_2 (power), AA21 VCCAUX (power), B2 VCCAUX (power), B5 VCCO_0 (power), B10 VCCO_0 (power), B14 VCCO_0 (power), B18 VCCO_0 (power), B21 VCCAUX (power), D12 VCCAUX (power), E2 VCCO_3 (power), E5 VCCAUX (power), E9 VCCO_0 (power), E14 VCCO_0 (power), E18 VCCAUX (power), E21 VCCO_1 (power), G7 VCCINT (power), G10 VCCAUX (power), G12 VCCAUX (power), G14 VCCAUX (power), G16 VCCINT (power), H9 VCCINT (power), H11 VCCINT (power), H13 VCCINT (power), H15 VCCINT (power), J2 VCCO_3 (power), J5 VCCO_3 (power), J8 VCCINT (power), J10 VCCINT (power), J12 VCCINT (power), J14 VCCINT (power), J16 VCCAUX (power), J18 VCCO_1 (power), K7 VCCAUX (power), K9 VCCINT (power), K11 VCCINT (power), K13 VCCINT (power), K15 VCCINT (power), K21 VCCO_1 (power), L4 VCCAUX (power), L8 VCCINT (power), L10 VCCINT (power), L12 VCCINT (power), L14 VCCINT (power), L16 VCCAUX (power), M7 VCCAUX (power), M9 VCCINT (power), M11 VCCINT (power), M13 VCCINT (power), M15 VCCINT (power), M19 VCCAUX (power), N2 VCCO_3 (power), N8 VCCINT (power), N10 VCCINT (power), N12 VCCINT (power), N14 VCCINT (power), N16 VCCAUX (power), P5 VCCO_3 (power), P7 VCCAUX (power), P9 VCCINT (power), P11 VCCINT (power), P13 VCCINT (power), P15 VCCINT (power), P18 VCCO_1 (power), P21 VCCO_1 (power), R8 VCCINT (power), R10 VCCINT (power), R12 VCCINT (power), R14 VCCINT (power), T7 VCCINT (power), T9 VCCAUX (power), T11 VCCAUX (power), T13 VCCAUX (power), T16 VCCINT (power), V2 VCCO_3 (power), V5 VCCAUX (power), V9 VCCO_2 (power), V14 VCCO_2 (power), V18 VCCAUX (power), V21 VCCO_1 (power), W11 VCCAUX (power)
part H pins: A1 GND (power), A22 GND (power), AA7 GND (power), AA11 GND (power), AA16 GND (power), AB1 GND (power), AB22 GND (power), B7 GND (power), B12 GND (power), B16 GND (power), C3 GND (power), C20 GND (power), D8 GND (power), D11 GND (power), D16 GND (power), F6 GND (power), F17 GND (power), G2 GND (power), G4 GND (power), G9 GND (power), G11 GND (power), G13 GND (power), G15 GND (power), G21 GND (power), H7 GND (power), H8 GND (power), H10 GND (power), H12 GND (power), H14 GND (power), H16 GND (power), H19 GND (power), J9 GND (power), J11 GND (power), J13 GND (power), J15 GND (power), K8 GND (power), K10 GND (power), K12 GND (power), K14 GND (power), L2 GND (power), L7 GND (power), L9 GND (power), L11 GND (power), L13 GND (power), L15 GND (power), L19 GND (power), M4 GND (power), M8 GND (power), M10 GND (power), M12 GND (power), M14 GND (power), M16 GND (power), M21 GND (power), N9 GND (power), N11 GND (power), N13 GND (power), N15 GND (power), P8 GND (power), P10 GND (power), P12 GND (power), P14 GND (power), R4 GND (power), R7 GND (power), R9 GND (power), R11 GND (power), R13 GND (power), R15 GND (power), R16 GND (power), T2 GND (power), T8 GND (power), T10 GND (power), T12 GND (power), T14 GND (power), T15 GND (power), T19 GND (power), T21 GND (power), U6 GND (power), U11 GND (power), U17 GND (power), W7 GND (power), W12 GND (power), W16 GND (power), Y3 GND (power), Y20 GND (power)
part A text: BANK 0
part B text: BANK 1
part C text: BANK 2
part D text: BANK 3

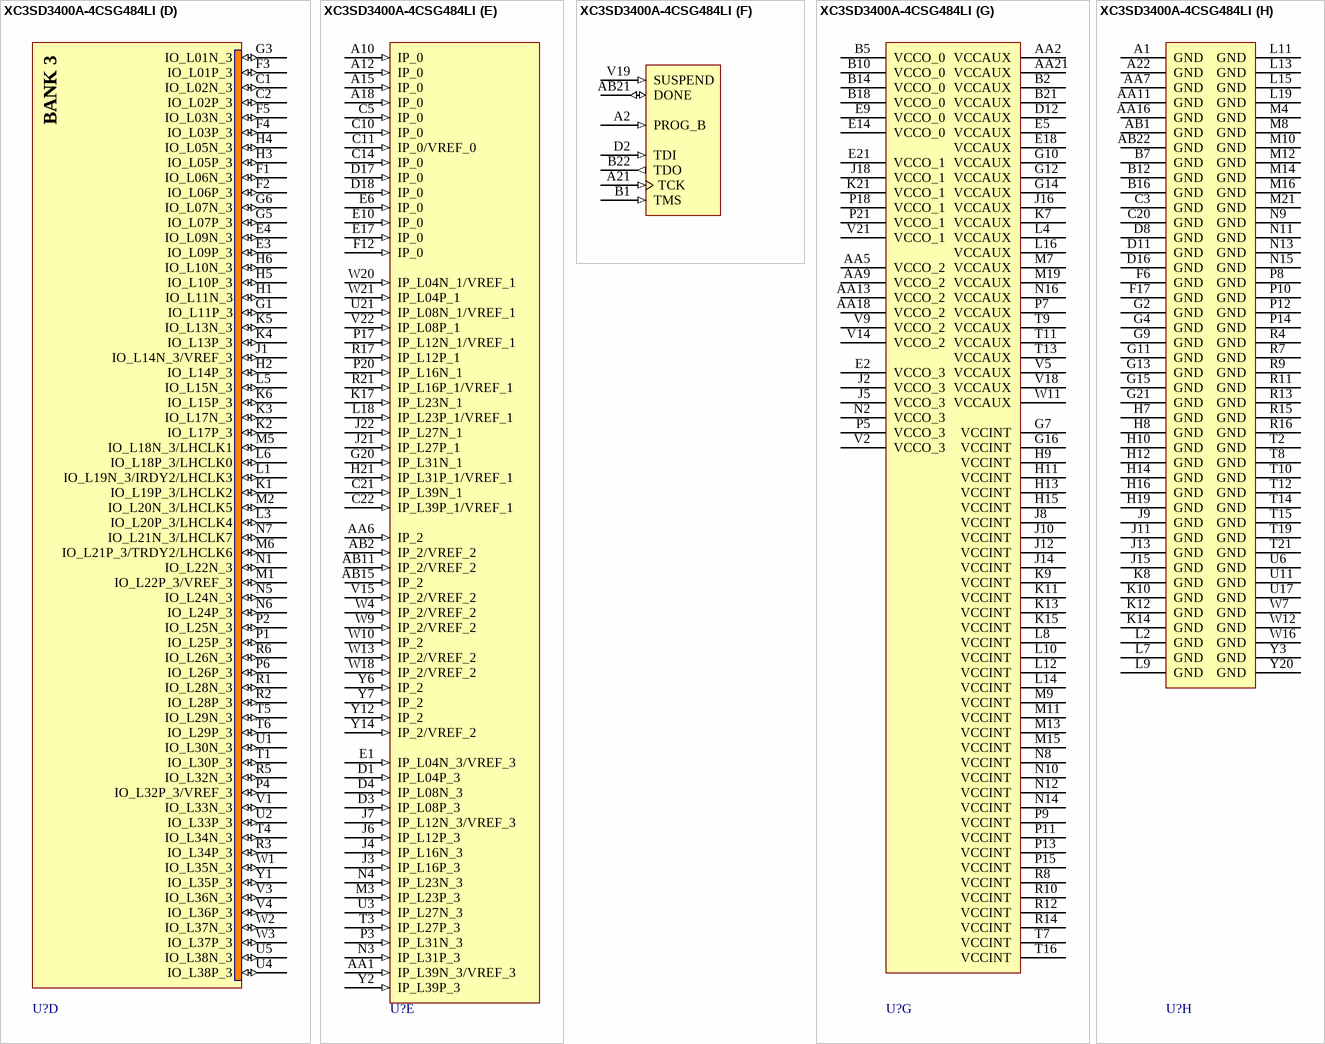
[diagram p32: symbol XC3SD3400A-4CSG484LI]